# Altium integrated library Actel ProASIC3.IntLib: 427 symbols (part 3 of 68)
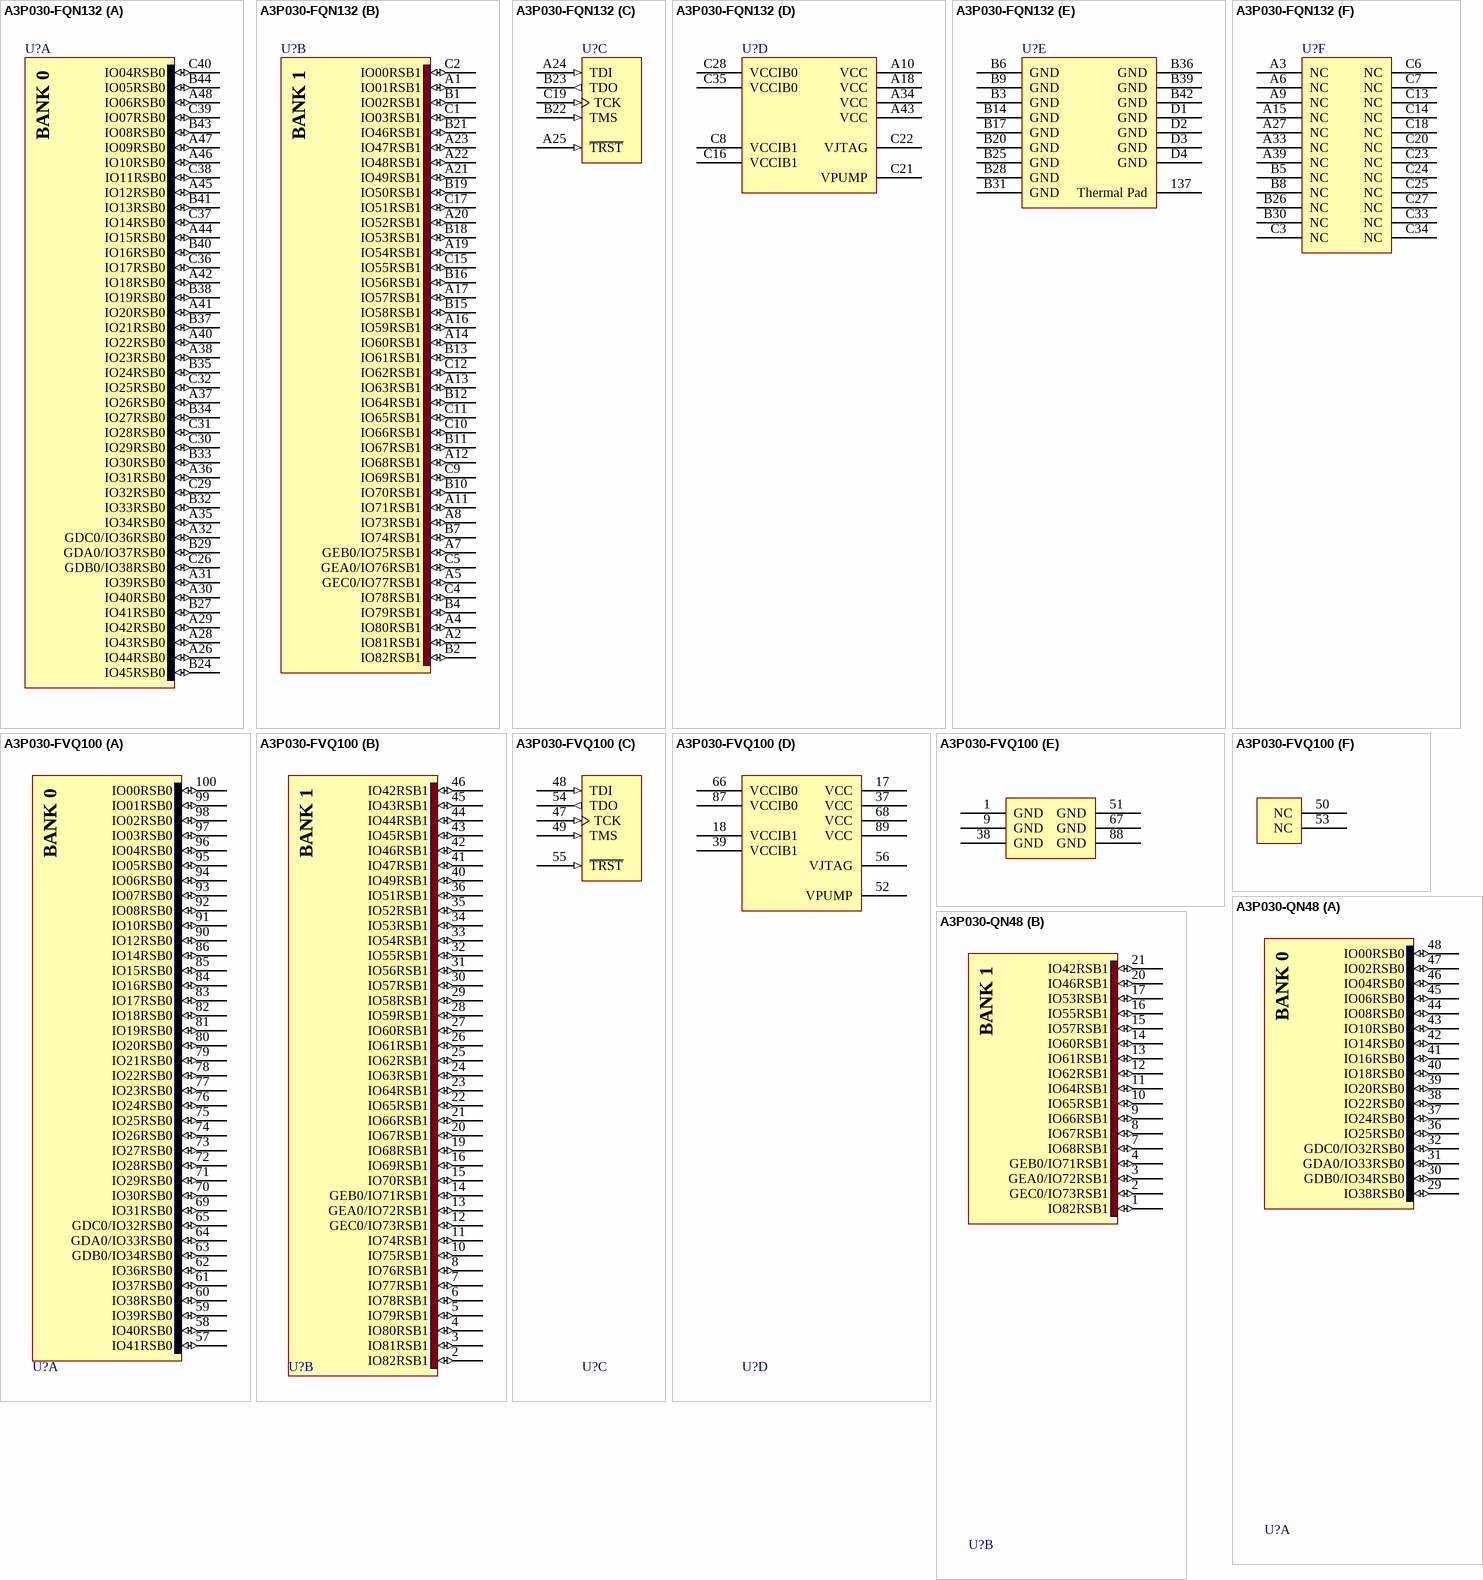
[diagram p302: symbols A3P030-FQN132 to A3P030-QN48]

## A3P030-FQN132
designator U?
ProASIC3 Flash Family FPGA, 81 User IOs, 30K System Gates, 1 Kbit ProASIC3 Flash ROM, 132-Pin QFN, Commercial Grade; Published: 30-Mar-2007; DatasheetVersion: v1.1, Feb-2009; PackageVersion: v11.0, Feb-2009; PackageReference: QN132; Publisher: Altium Limited; PackageDescription: 132-Pin Quad Flat Pack No-Leads (QN132); ComponentLink1Description: Manufacturer Link; ComponentLink1URL: http://www.actel.com/products/pa3/; ComponentLink2Description: Datasheet; ComponentLink2URL: http://www.actel.com/documents/PA3_DS.pdf; ComponentLink3Description: Packaging Specification; ComponentLink3URL: http://www.actel.com/documents/PckgMechDrwngs.pdf
footprint QN132 (QFN, 132-Leads, Body 8x8mm, Pitch 0.5mm)
3D model A3P030-QN132 (132-Pin Quad Flat Pack No-Leads (QN132))
signal-integrity model A3P030_QN132 (ProASIC3)
part A pins: A26 IO44RSB0 (io), A28 IO43RSB0 (io), A29 IO42RSB0 (io), A30 IO40RSB0 (io), A31 IO39RSB0 (io), A32 GDC0/IO36RSB0 (io), A35 IO34RSB0 (io), A36 IO31RSB0 (io), A37 IO26RSB0 (io), A38 IO23RSB0 (io), A40 IO22RSB0 (io), A41 IO20RSB0 (io), A42 IO18RSB0 (io), A44 IO15RSB0 (io), A45 IO12RSB0 (io), A46 IO10RSB0 (io), A47 IO09RSB0 (io), A48 IO06RSB0 (io), B24 IO45RSB0 (io), B27 IO41RSB0 (io), B29 GDA0/IO37RSB0 (io), B32 IO33RSB0 (io), B33 IO30RSB0 (io), B34 IO27RSB0 (io), B35 IO24RSB0 (io), B37 IO21RSB0 (io), B38 IO19RSB0 (io), B40 IO16RSB0 (io), B41 IO13RSB0 (io), B43 IO08RSB0 (io), B44 IO05RSB0 (io), C26 GDB0/IO38RSB0 (io), C29 IO32RSB0 (io), C30 IO29RSB0 (io), C31 IO28RSB0 (io), C32 IO25RSB0 (io), C36 IO17RSB0 (io), C37 IO14RSB0 (io), C38 IO11RSB0 (io), C39 IO07RSB0 (io), C40 IO04RSB0 (io)
part B pins: A1 IO01RSB1 (io), A2 IO81RSB1 (io), A4 IO80RSB1 (io), A5 GEC0/IO77RSB1 (io), A7 GEB0/IO75RSB1 (io), A8 IO73RSB1 (io), A11 IO71RSB1 (io), A12 IO68RSB1 (io), A13 IO63RSB1 (io), A14 IO60RSB1 (io), A16 IO59RSB1 (io), A17 IO57RSB1 (io), A19 IO54RSB1 (io), A20 IO52RSB1 (io), A21 IO49RSB1 (io), A22 IO48RSB1 (io), A23 IO47RSB1 (io), B1 IO02RSB1 (io), B2 IO82RSB1 (io), B4 IO79RSB1 (io), B7 IO74RSB1 (io), B10 IO70RSB1 (io), B11 IO67RSB1 (io), B12 IO64RSB1 (io), B13 IO61RSB1 (io), B15 IO58RSB1 (io), B16 IO56RSB1 (io), B18 IO53RSB1 (io), B19 IO50RSB1 (io), B21 IO46RSB1 (io), C1 IO03RSB1 (io), C2 IO00RSB1 (io), C4 IO78RSB1 (io), C5 GEA0/IO76RSB1 (io), C9 IO69RSB1 (io), C10 IO66RSB1 (io), C11 IO65RSB1 (io), C12 IO62RSB1 (io), C15 IO55RSB1 (io), C17 IO51RSB1 (io)
part C pins: A24 TDI (in), A25 ~{TRST} (in), B22 TMS (in), B23 TDO (out), C19 TCK (in)
part D pins: A10 VCC (power), A18 VCC (power), A34 VCC (power), A43 VCC (power), C8 VCCIB1 (power), C16 VCCIB1 (power), C21 VPUMP (power), C22 VJTAG (power), C28 VCCIB0 (power), C35 VCCIB0 (power)
part E pins: 137 Thermal Pad (power), B3 GND (power), B6 GND (power), B9 GND (power), B14 GND (power), B17 GND (power), B20 GND (power), B25 GND (power), B28 GND (power), B31 GND (power), B36 GND (power), B39 GND (power), B42 GND (power), D1 GND (power), D2 GND (power), D3 GND (power), D4 GND (power)
part F pins: A3 NC, A6 NC, A9 NC, A15 NC, A27 NC, A33 NC, A39 NC, B5 NC, B8 NC, B26 NC, B30 NC, C3 NC, C6 NC, C7 NC, C13 NC, C14 NC, C18 NC, C20 NC, C23 NC, C24 NC, C25 NC, C27 NC, C33 NC, C34 NC
part A text: BANK 0
part B text: BANK 1

## A3P030-FVQ100
designator U?
ProASIC3 Flash Family FPGA, 77 User IOs, 30K System Gates, 1 Kbit Flash ROM, 100-Pin VQFP, Commercial Grade; Published: 14-May-2005; LatestRevisionDate: 30-Apr-2009; LatestRevisionNote: Pinout changed to match DS ver 1.4.; DatasheetVersion: v1.1, Feb-2009; PackageVersion: v11.0, Feb-2009; PackageReference: VQ100; Publisher: Altium Limited; PackageDescription: 100-Pin Plastic Quad Flat Pack (VQ100); Code_JEDEC: MS-026-AED; ComponentLink1Description: Manufacturer Link; ComponentLink1URL: http://www.actel.com/products/pa3/; ComponentLink2Description: Datasheet; ComponentLink2URL: http://www.actel.com/documents/PA3_DS.pdf; ComponentLink3Description: Packaging Specification; ComponentLink3URL: http://www.actel.com/documents/PckgMechDrwngs.pdf
footprint VQ100_N (Thin QFP, 100-Leads, Body 14x14mm, Pitch 0.5mm, IPC Medium Density)
footprint VQ100_L (Thin QFP, 100-Leads, Body 14x14mm, Pitch 0.5mm, IPC High Density)
footprint VQ100_M (Thin QFP, 100-Leads, Body 14x14mm, Pitch 0.5mm, IPC Low Density)
3D model A3P030-VQ100 (100-Pin Plastic Quad Flat Pack (VQ100))
signal-integrity model A3P030_VQ100 (ProASIC3)
part A pins: 57 IO41RSB0 (io), 58 IO40RSB0 (io), 59 IO39RSB0 (io), 60 IO38RSB0 (io), 61 IO37RSB0 (io), 62 IO36RSB0 (io), 63 GDB0/IO34RSB0 (io), 64 GDA0/IO33RSB0 (io), 65 GDC0/IO32RSB0 (io), 69 IO31RSB0 (io), 70 IO30RSB0 (io), 71 IO29RSB0 (io), 72 IO28RSB0 (io), 73 IO27RSB0 (io), 74 IO26RSB0 (io), 75 IO25RSB0 (io), 76 IO24RSB0 (io), 77 IO23RSB0 (io), 78 IO22RSB0 (io), 79 IO21RSB0 (io), 80 IO20RSB0 (io), 81 IO19RSB0 (io), 82 IO18RSB0 (io), 83 IO17RSB0 (io), 84 IO16RSB0 (io), 85 IO15RSB0 (io), 86 IO14RSB0 (io), 90 IO12RSB0 (io), 91 IO10RSB0 (io), 92 IO08RSB0 (io), 93 IO07RSB0 (io), 94 IO06RSB0 (io), 95 IO05RSB0 (io), 96 IO04RSB0 (io), 97 IO03RSB0 (io), 98 IO02RSB0 (io), 99 IO01RSB0 (io), 100 IO00RSB0 (io)
part B pins: 2 IO82RSB1 (io), 3 IO81RSB1 (io), 4 IO80RSB1 (io), 5 IO79RSB1 (io), 6 IO78RSB1 (io), 7 IO77RSB1 (io), 8 IO76RSB1 (io), 10 IO75RSB1 (io), 11 IO74RSB1 (io), 12 GEC0/IO73RSB1 (io), 13 GEA0/IO72RSB1 (io), 14 GEB0/IO71RSB1 (io), 15 IO70RSB1 (io), 16 IO69RSB1 (io), 19 IO68RSB1 (io), 20 IO67RSB1 (io), 21 IO66RSB1 (io), 22 IO65RSB1 (io), 23 IO64RSB1 (io), 24 IO63RSB1 (io), 25 IO62RSB1 (io), 26 IO61RSB1 (io), 27 IO60RSB1 (io), 28 IO59RSB1 (io), 29 IO58RSB1 (io), 30 IO57RSB1 (io), 31 IO56RSB1 (io), 32 IO55RSB1 (io), 33 IO54RSB1 (io), 34 IO53RSB1 (io), 35 IO52RSB1 (io), 36 IO51RSB1 (io), 40 IO49RSB1 (io), 41 IO47RSB1 (io), 42 IO46RSB1 (io), 43 IO45RSB1 (io), 44 IO44RSB1 (io), 45 IO43RSB1 (io), 46 IO42RSB1 (io)
part C pins: 47 TCK (in), 48 TDI (in), 49 TMS (in), 54 TDO (out), 55 ~{TRST} (in)
part D pins: 17 VCC (power), 18 VCCIB1 (power), 37 VCC (power), 39 VCCIB1 (power), 52 VPUMP (power), 56 VJTAG (power), 66 VCCIB0 (power), 68 VCC (power), 87 VCCIB0 (power), 89 VCC (power)
part E pins: 1 GND (power), 9 GND (power), 38 GND (power), 51 GND (power), 67 GND (power), 88 GND (power)
part F pins: 50 NC, 53 NC
part A text: BANK 0
part B text: BANK 1

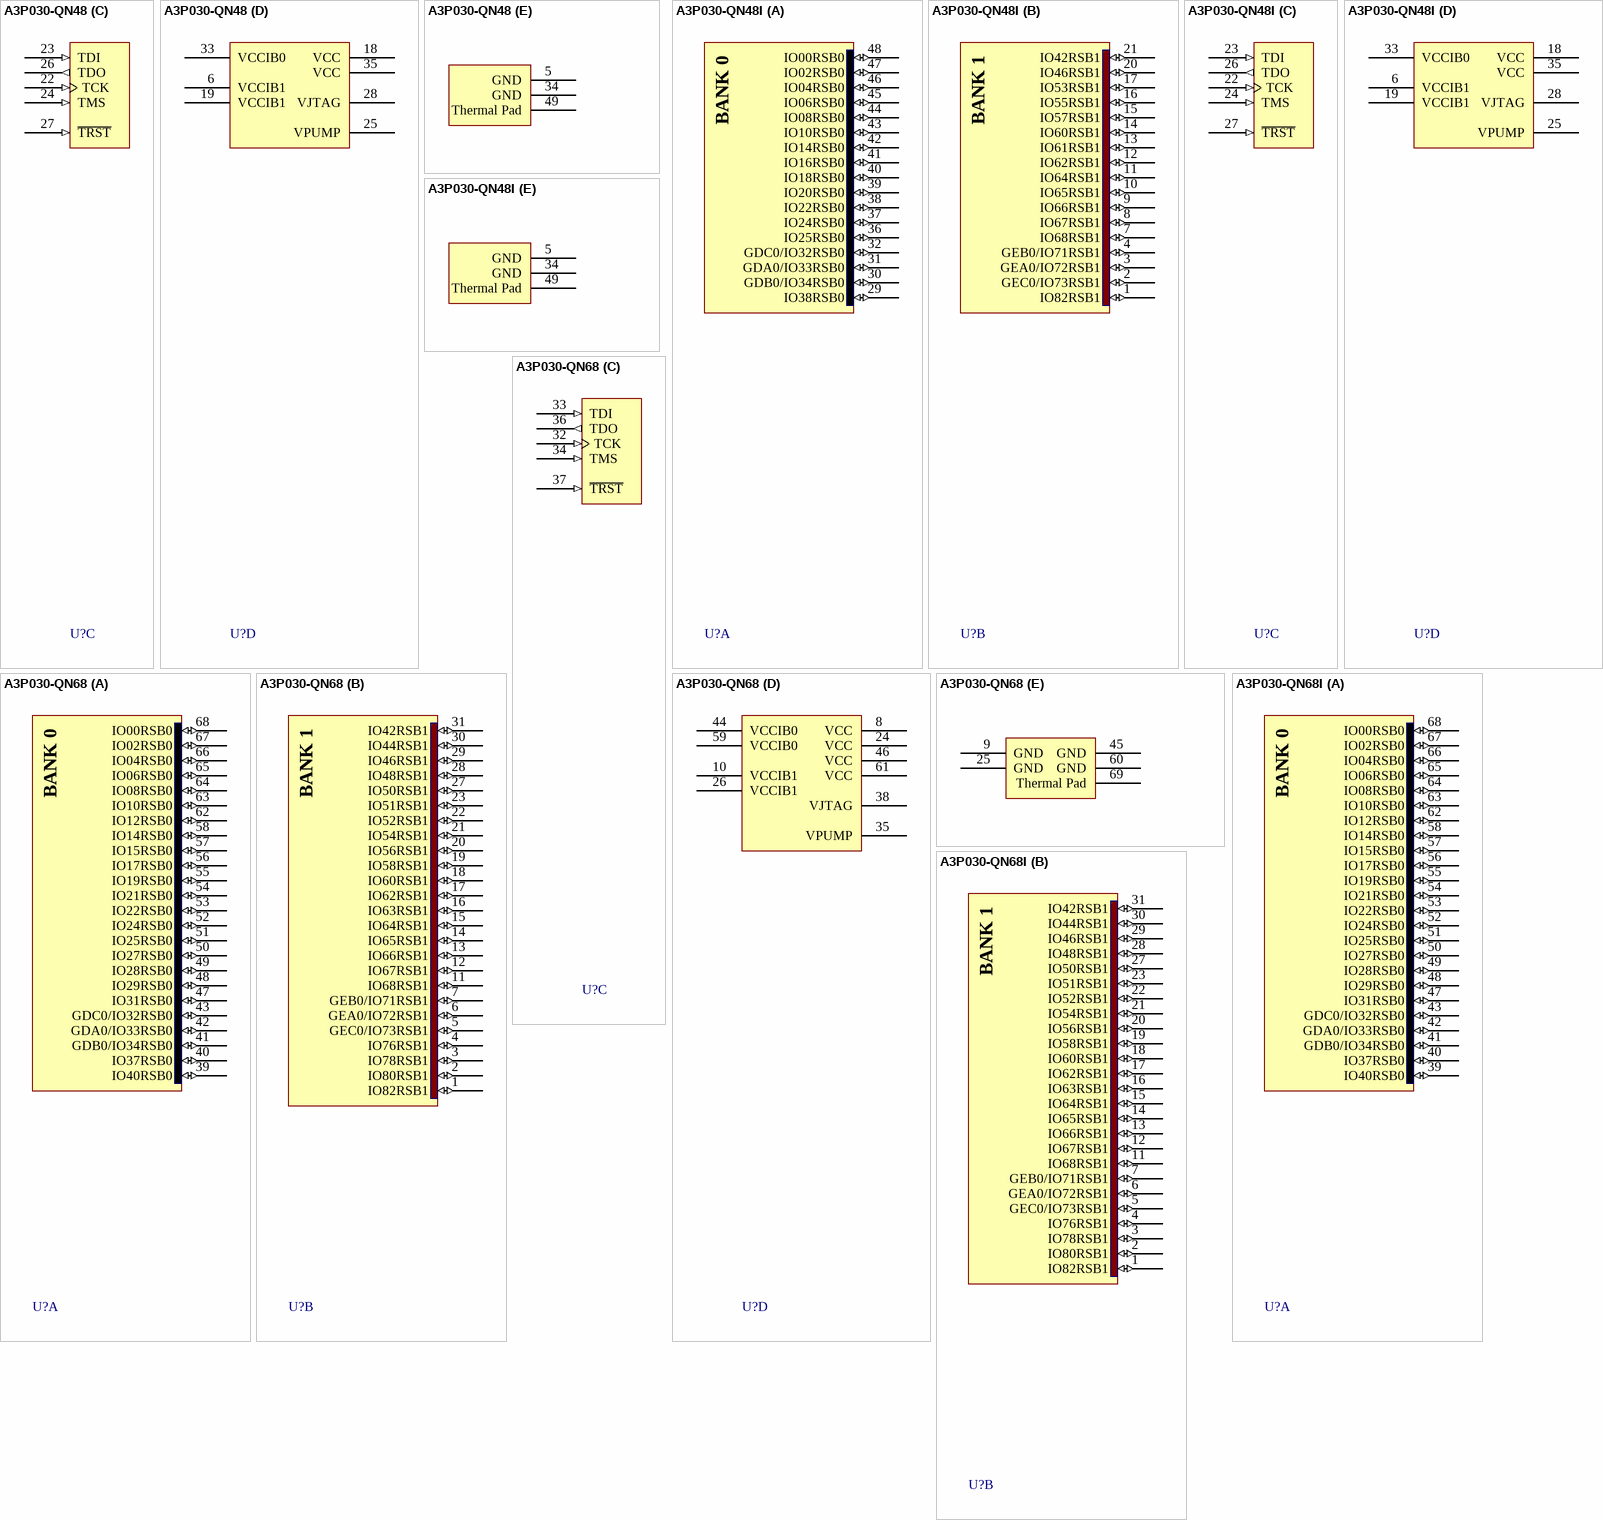
[diagram p10: symbols A3P030-QN48 to A3P030-QN68I]

## A3P030-QN48
designator U?
ProASIC3 Flash Family FPGA, 34 User IOs, 30K System Gates, 1 Kbit ProASIC3 Flash ROM, 48-Pin QFN, Commercial Grade; Published: 30-Apr-2009; DatasheetVersion: v1.1, Feb-2009; PackageVersion: v11.0, Feb-2009; PackageReference: QN48; Publisher: Altium Limited; PackageDescription: 48-Pin Quad Flat No-Lead 0.4 mm Pitch (QN48); Code_JEDEC: MO-220-VLLE-1; ComponentLink1Description: Manufacturer Link; ComponentLink1URL: http://www.actel.com/products/pa3/; ComponentLink2Description: Datasheet; ComponentLink2URL: http://www.actel.com/documents/PA3_DS.pdf; ComponentLink3Description: Packaging Specification; ComponentLink3URL: http://www.actel.com/documents/PckgMechDrwngs.pdf
footprint QN48_N (QFN, 48-Leads, Body 6x6 mm, Pitch 0.4mm, IPC Medium Density)
footprint QN48_L (QFN, 48-Leads, Body 6x6 mm, Pitch 0.4mm, IPC High Density)
footprint QN48_M (QFN, 48-Leads, Body 6x6 mm, Pitch 0.4mm, IPC Low Density)
3D model A3P030-QN48 (48-Pin Quad Flat No-Lead 0.4 mm Pitch (QN48))
signal-integrity model A3P030_QN48 (ProASIC3)
part A pins: 29 IO38RSB0 (io), 30 GDB0/IO34RSB0 (io), 31 GDA0/IO33RSB0 (io), 32 GDC0/IO32RSB0 (io), 36 IO25RSB0 (io), 37 IO24RSB0 (io), 38 IO22RSB0 (io), 39 IO20RSB0 (io), 40 IO18RSB0 (io), 41 IO16RSB0 (io), 42 IO14RSB0 (io), 43 IO10RSB0 (io), 44 IO08RSB0 (io), 45 IO06RSB0 (io), 46 IO04RSB0 (io), 47 IO02RSB0 (io), 48 IO00RSB0 (io)
part B pins: 1 IO82RSB1 (io), 2 GEC0/IO73RSB1 (io), 3 GEA0/IO72RSB1 (io), 4 GEB0/IO71RSB1 (io), 7 IO68RSB1 (io), 8 IO67RSB1 (io), 9 IO66RSB1 (io), 10 IO65RSB1 (io), 11 IO64RSB1 (io), 12 IO62RSB1 (io), 13 IO61RSB1 (io), 14 IO60RSB1 (io), 15 IO57RSB1 (io), 16 IO55RSB1 (io), 17 IO53RSB1 (io), 20 IO46RSB1 (io), 21 IO42RSB1 (io)
part C pins: 22 TCK (in), 23 TDI (in), 24 TMS (in), 26 TDO (out), 27 ~{TRST} (in)
part D pins: 6 VCCIB1 (power), 18 VCC (power), 19 VCCIB1 (power), 25 VPUMP (power), 28 VJTAG (power), 33 VCCIB0 (power), 35 VCC (power)
part E pins: 5 GND (power), 34 GND (power), 49 Thermal Pad (power)
part A text: BANK 0
part B text: BANK 1

## A3P030-QN48I
designator U?
ProASIC3 Flash Family FPGA, 34 User IOs, 30K System Gates, 1 Kbit ProASIC3 Flash ROM, 48-Pin QFN, Industrial Grade; Published: 30-Apr-2009; DatasheetVersion: v1.1, Feb-2009; PackageVersion: v11.0, Feb-2009; PackageReference: QN48; Publisher: Altium Limited; PackageDescription: 48-Pin Quad Flat No-Lead 0.4 mm Pitch (QN48); Code_JEDEC: MO-220-VLLE-1; ComponentLink1Description: Manufacturer Link; ComponentLink1URL: http://www.actel.com/products/pa3/; ComponentLink2Description: Datasheet; ComponentLink2URL: http://www.actel.com/documents/PA3_DS.pdf; ComponentLink3Description: Packaging Specification; ComponentLink3URL: http://www.actel.com/documents/PckgMechDrwngs.pdf
footprint QN48_N (QFN, 48-Leads, Body 6x6 mm, Pitch 0.4mm, IPC Medium Density)
footprint QN48_L (QFN, 48-Leads, Body 6x6 mm, Pitch 0.4mm, IPC High Density)
footprint QN48_M (QFN, 48-Leads, Body 6x6 mm, Pitch 0.4mm, IPC Low Density)
3D model A3P030-QN48 (48-Pin Quad Flat No-Lead 0.4 mm Pitch (QN48))
signal-integrity model A3P030_QN48 (ProASIC3)
part A pins: 29 IO38RSB0 (io), 30 GDB0/IO34RSB0 (io), 31 GDA0/IO33RSB0 (io), 32 GDC0/IO32RSB0 (io), 36 IO25RSB0 (io), 37 IO24RSB0 (io), 38 IO22RSB0 (io), 39 IO20RSB0 (io), 40 IO18RSB0 (io), 41 IO16RSB0 (io), 42 IO14RSB0 (io), 43 IO10RSB0 (io), 44 IO08RSB0 (io), 45 IO06RSB0 (io), 46 IO04RSB0 (io), 47 IO02RSB0 (io), 48 IO00RSB0 (io)
part B pins: 1 IO82RSB1 (io), 2 GEC0/IO73RSB1 (io), 3 GEA0/IO72RSB1 (io), 4 GEB0/IO71RSB1 (io), 7 IO68RSB1 (io), 8 IO67RSB1 (io), 9 IO66RSB1 (io), 10 IO65RSB1 (io), 11 IO64RSB1 (io), 12 IO62RSB1 (io), 13 IO61RSB1 (io), 14 IO60RSB1 (io), 15 IO57RSB1 (io), 16 IO55RSB1 (io), 17 IO53RSB1 (io), 20 IO46RSB1 (io), 21 IO42RSB1 (io)
part C pins: 22 TCK (in), 23 TDI (in), 24 TMS (in), 26 TDO (out), 27 ~{TRST} (in)
part D pins: 6 VCCIB1 (power), 18 VCC (power), 19 VCCIB1 (power), 25 VPUMP (power), 28 VJTAG (power), 33 VCCIB0 (power), 35 VCC (power)
part E pins: 5 GND (power), 34 GND (power), 49 Thermal Pad (power)
part A text: BANK 0
part B text: BANK 1

## A3P030-QN68
designator U?
ProASIC3 Flash Family FPGA, 49 User IOs, 30K System Gates, 1 Kbit ProASIC3 Flash ROM, 68-Pin QFN, Commercial Grade; Published: 30-Apr-2009; DatasheetVersion: v1.1, Feb-2009; PackageVersion: v11.0, Feb-2009; PackageReference: QN68; Publisher: Altium Limited; PackageDescription: 68-Pin Quad Flat No-Lead 0.4 mm Pitch (QN68); Code_JEDEC: MO-220-VLLE-1; ComponentLink1Description: Manufacturer Link; ComponentLink1URL: http://www.actel.com/products/pa3/; ComponentLink2Description: Datasheet; ComponentLink2URL: http://www.actel.com/documents/PA3_DS.pdf; ComponentLink3Description: Packaging Specification; ComponentLink3URL: http://www.actel.com/documents/PckgMechDrwngs.pdf
footprint QN68_N (QFN, 68-Leads, Body 8x8 mm, Pitch 0.4mm, IPC Medium Density)
footprint QN68_L (QFN, 68-Leads, Body 8x8 mm, Pitch 0.4mm, IPC High Density)
footprint QN68_M (QFN, 68-Leads, Body 8x8 mm, Pitch 0.4mm, IPC Low Density)
3D model A3P030-QN68 (68-Pin Quad Flat No-Lead 0.4 mm Pitch (QN68))
signal-integrity model A3P030_QN68 (ProASIC3)
part A pins: 39 IO40RSB0 (io), 40 IO37RSB0 (io), 41 GDB0/IO34RSB0 (io), 42 GDA0/IO33RSB0 (io), 43 GDC0/IO32RSB0 (io), 47 IO31RSB0 (io), 48 IO29RSB0 (io), 49 IO28RSB0 (io), 50 IO27RSB0 (io), 51 IO25RSB0 (io), 52 IO24RSB0 (io), 53 IO22RSB0 (io), 54 IO21RSB0 (io), 55 IO19RSB0 (io), 56 IO17RSB0 (io), 57 IO15RSB0 (io), 58 IO14RSB0 (io), 62 IO12RSB0 (io), 63 IO10RSB0 (io), 64 IO08RSB0 (io), 65 IO06RSB0 (io), 66 IO04RSB0 (io), 67 IO02RSB0 (io), 68 IO00RSB0 (io)
part B pins: 1 IO82RSB1 (io), 2 IO80RSB1 (io), 3 IO78RSB1 (io), 4 IO76RSB1 (io), 5 GEC0/IO73RSB1 (io), 6 GEA0/IO72RSB1 (io), 7 GEB0/IO71RSB1 (io), 11 IO68RSB1 (io), 12 IO67RSB1 (io), 13 IO66RSB1 (io), 14 IO65RSB1 (io), 15 IO64RSB1 (io), 16 IO63RSB1 (io), 17 IO62RSB1 (io), 18 IO60RSB1 (io), 19 IO58RSB1 (io), 20 IO56RSB1 (io), 21 IO54RSB1 (io), 22 IO52RSB1 (io), 23 IO51RSB1 (io), 27 IO50RSB1 (io), 28 IO48RSB1 (io), 29 IO46RSB1 (io), 30 IO44RSB1 (io), 31 IO42RSB1 (io)
part C pins: 32 TCK (in), 33 TDI (in), 34 TMS (in), 36 TDO (out), 37 ~{TRST} (in)
part D pins: 8 VCC (power), 10 VCCIB1 (power), 24 VCC (power), 26 VCCIB1 (power), 35 VPUMP (power), 38 VJTAG (power), 44 VCCIB0 (power), 46 VCC (power), 59 VCCIB0 (power), 61 VCC (power)
part E pins: 9 GND (power), 25 GND (power), 45 GND (power), 60 GND (power), 69 Thermal Pad (power)
part A text: BANK 0
part B text: BANK 1

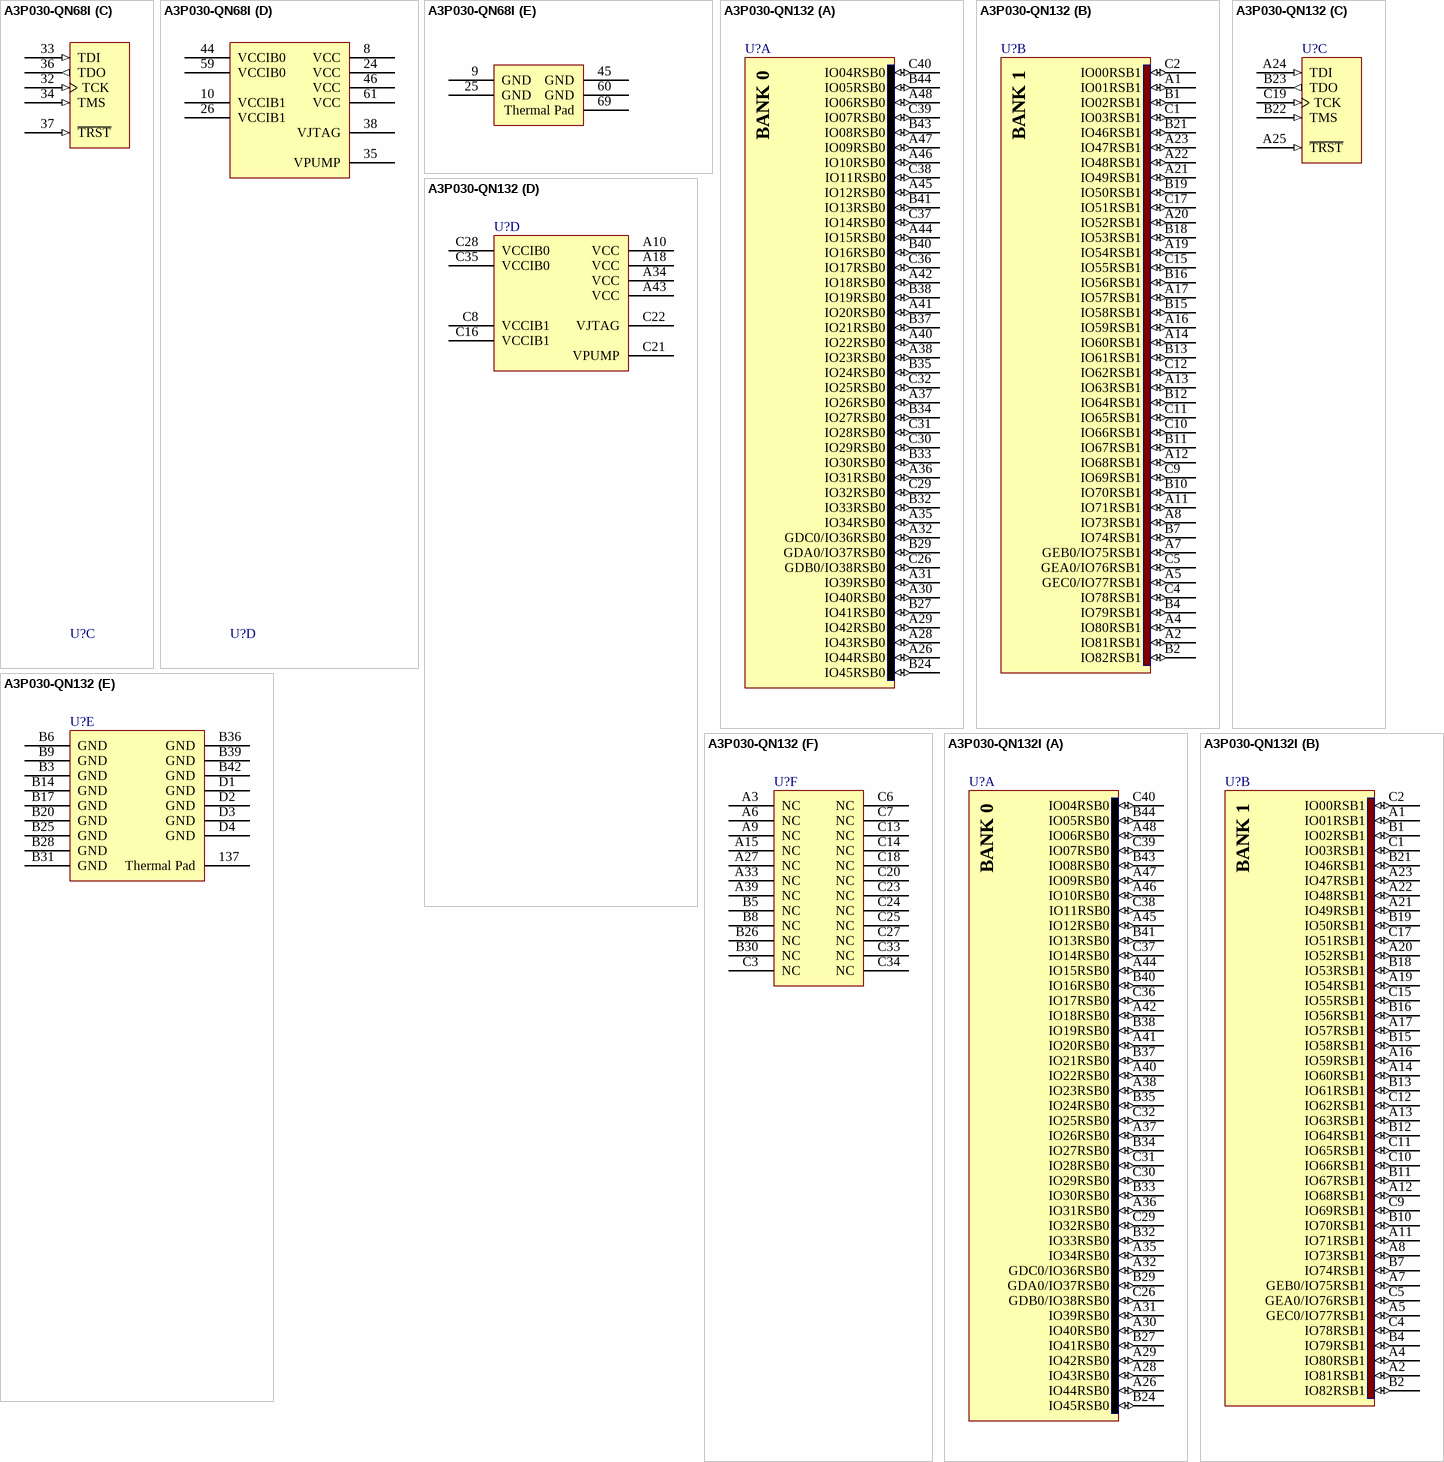
[diagram p11: symbols A3P030-QN68I to A3P030-QN132I]

## A3P030-QN68I
designator U?
ProASIC3 Flash Family FPGA, 49 User IOs, 30K System Gates, 1 Kbit ProASIC3 Flash ROM, 68-Pin QFN, Industrial Grade; Published: 30-Apr-2009; DatasheetVersion: v1.1, Feb-2009; PackageVersion: v11.0, Feb-2009; PackageReference: QN68; Publisher: Altium Limited; PackageDescription: 68-Pin Quad Flat No-Lead 0.4 mm Pitch (QN68); Code_JEDEC: MO-220-VLLE-1; ComponentLink1Description: Manufacturer Link; ComponentLink1URL: http://www.actel.com/products/pa3/; ComponentLink2Description: Datasheet; ComponentLink2URL: http://www.actel.com/documents/PA3_DS.pdf; ComponentLink3Description: Packaging Specification; ComponentLink3URL: http://www.actel.com/documents/PckgMechDrwngs.pdf
footprint QN68_N (QFN, 68-Leads, Body 8x8 mm, Pitch 0.4mm, IPC Medium Density)
footprint QN68_L (QFN, 68-Leads, Body 8x8 mm, Pitch 0.4mm, IPC High Density)
footprint QN68_M (QFN, 68-Leads, Body 8x8 mm, Pitch 0.4mm, IPC Low Density)
3D model A3P030-QN68 (68-Pin Quad Flat No-Lead 0.4 mm Pitch (QN68))
signal-integrity model A3P030_QN68 (ProASIC3)
part A pins: 39 IO40RSB0 (io), 40 IO37RSB0 (io), 41 GDB0/IO34RSB0 (io), 42 GDA0/IO33RSB0 (io), 43 GDC0/IO32RSB0 (io), 47 IO31RSB0 (io), 48 IO29RSB0 (io), 49 IO28RSB0 (io), 50 IO27RSB0 (io), 51 IO25RSB0 (io), 52 IO24RSB0 (io), 53 IO22RSB0 (io), 54 IO21RSB0 (io), 55 IO19RSB0 (io), 56 IO17RSB0 (io), 57 IO15RSB0 (io), 58 IO14RSB0 (io), 62 IO12RSB0 (io), 63 IO10RSB0 (io), 64 IO08RSB0 (io), 65 IO06RSB0 (io), 66 IO04RSB0 (io), 67 IO02RSB0 (io), 68 IO00RSB0 (io)
part B pins: 1 IO82RSB1 (io), 2 IO80RSB1 (io), 3 IO78RSB1 (io), 4 IO76RSB1 (io), 5 GEC0/IO73RSB1 (io), 6 GEA0/IO72RSB1 (io), 7 GEB0/IO71RSB1 (io), 11 IO68RSB1 (io), 12 IO67RSB1 (io), 13 IO66RSB1 (io), 14 IO65RSB1 (io), 15 IO64RSB1 (io), 16 IO63RSB1 (io), 17 IO62RSB1 (io), 18 IO60RSB1 (io), 19 IO58RSB1 (io), 20 IO56RSB1 (io), 21 IO54RSB1 (io), 22 IO52RSB1 (io), 23 IO51RSB1 (io), 27 IO50RSB1 (io), 28 IO48RSB1 (io), 29 IO46RSB1 (io), 30 IO44RSB1 (io), 31 IO42RSB1 (io)
part C pins: 32 TCK (in), 33 TDI (in), 34 TMS (in), 36 TDO (out), 37 ~{TRST} (in)
part D pins: 8 VCC (power), 10 VCCIB1 (power), 24 VCC (power), 26 VCCIB1 (power), 35 VPUMP (power), 38 VJTAG (power), 44 VCCIB0 (power), 46 VCC (power), 59 VCCIB0 (power), 61 VCC (power)
part E pins: 9 GND (power), 25 GND (power), 45 GND (power), 60 GND (power), 69 Thermal Pad (power)
part A text: BANK 0
part B text: BANK 1

## A3P030-QN132
designator U?
ProASIC3 Flash Family FPGA, 81 User IOs, 30K System Gates, 1 Kbit ProASIC3 Flash ROM, 132-Pin QFN, Commercial Grade; Published: 30-Mar-2007; DatasheetVersion: v1.1, Feb-2009; PackageVersion: v11.0, Feb-2009; PackageReference: QN132; Publisher: Altium Limited; PackageDescription: 132-Pin Quad Flat Pack No-Leads (QN132); ComponentLink1Description: Manufacturer Link; ComponentLink1URL: http://www.actel.com/products/pa3/; ComponentLink2Description: Datasheet; ComponentLink2URL: http://www.actel.com/documents/PA3_DS.pdf; ComponentLink3Description: Packaging Specification; ComponentLink3URL: http://www.actel.com/documents/PckgMechDrwngs.pdf
footprint QN132 (QFN, 132-Leads, Body 8x8mm, Pitch 0.5mm)
3D model A3P030-QN132 (132-Pin Quad Flat Pack No-Leads (QN132))
signal-integrity model A3P030_QN132 (ProASIC3)
part A pins: A26 IO44RSB0 (io), A28 IO43RSB0 (io), A29 IO42RSB0 (io), A30 IO40RSB0 (io), A31 IO39RSB0 (io), A32 GDC0/IO36RSB0 (io), A35 IO34RSB0 (io), A36 IO31RSB0 (io), A37 IO26RSB0 (io), A38 IO23RSB0 (io), A40 IO22RSB0 (io), A41 IO20RSB0 (io), A42 IO18RSB0 (io), A44 IO15RSB0 (io), A45 IO12RSB0 (io), A46 IO10RSB0 (io), A47 IO09RSB0 (io), A48 IO06RSB0 (io), B24 IO45RSB0 (io), B27 IO41RSB0 (io), B29 GDA0/IO37RSB0 (io), B32 IO33RSB0 (io), B33 IO30RSB0 (io), B34 IO27RSB0 (io), B35 IO24RSB0 (io), B37 IO21RSB0 (io), B38 IO19RSB0 (io), B40 IO16RSB0 (io), B41 IO13RSB0 (io), B43 IO08RSB0 (io), B44 IO05RSB0 (io), C26 GDB0/IO38RSB0 (io), C29 IO32RSB0 (io), C30 IO29RSB0 (io), C31 IO28RSB0 (io), C32 IO25RSB0 (io), C36 IO17RSB0 (io), C37 IO14RSB0 (io), C38 IO11RSB0 (io), C39 IO07RSB0 (io), C40 IO04RSB0 (io)
part B pins: A1 IO01RSB1 (io), A2 IO81RSB1 (io), A4 IO80RSB1 (io), A5 GEC0/IO77RSB1 (io), A7 GEB0/IO75RSB1 (io), A8 IO73RSB1 (io), A11 IO71RSB1 (io), A12 IO68RSB1 (io), A13 IO63RSB1 (io), A14 IO60RSB1 (io), A16 IO59RSB1 (io), A17 IO57RSB1 (io), A19 IO54RSB1 (io), A20 IO52RSB1 (io), A21 IO49RSB1 (io), A22 IO48RSB1 (io), A23 IO47RSB1 (io), B1 IO02RSB1 (io), B2 IO82RSB1 (io), B4 IO79RSB1 (io), B7 IO74RSB1 (io), B10 IO70RSB1 (io), B11 IO67RSB1 (io), B12 IO64RSB1 (io), B13 IO61RSB1 (io), B15 IO58RSB1 (io), B16 IO56RSB1 (io), B18 IO53RSB1 (io), B19 IO50RSB1 (io), B21 IO46RSB1 (io), C1 IO03RSB1 (io), C2 IO00RSB1 (io), C4 IO78RSB1 (io), C5 GEA0/IO76RSB1 (io), C9 IO69RSB1 (io), C10 IO66RSB1 (io), C11 IO65RSB1 (io), C12 IO62RSB1 (io), C15 IO55RSB1 (io), C17 IO51RSB1 (io)
part C pins: A24 TDI (in), A25 ~{TRST} (in), B22 TMS (in), B23 TDO (out), C19 TCK (in)
part D pins: A10 VCC (power), A18 VCC (power), A34 VCC (power), A43 VCC (power), C8 VCCIB1 (power), C16 VCCIB1 (power), C21 VPUMP (power), C22 VJTAG (power), C28 VCCIB0 (power), C35 VCCIB0 (power)
part E pins: 137 Thermal Pad (power), B3 GND (power), B6 GND (power), B9 GND (power), B14 GND (power), B17 GND (power), B20 GND (power), B25 GND (power), B28 GND (power), B31 GND (power), B36 GND (power), B39 GND (power), B42 GND (power), D1 GND (power), D2 GND (power), D3 GND (power), D4 GND (power)
part F pins: A3 NC, A6 NC, A9 NC, A15 NC, A27 NC, A33 NC, A39 NC, B5 NC, B8 NC, B26 NC, B30 NC, C3 NC, C6 NC, C7 NC, C13 NC, C14 NC, C18 NC, C20 NC, C23 NC, C24 NC, C25 NC, C27 NC, C33 NC, C34 NC
part A text: BANK 0
part B text: BANK 1

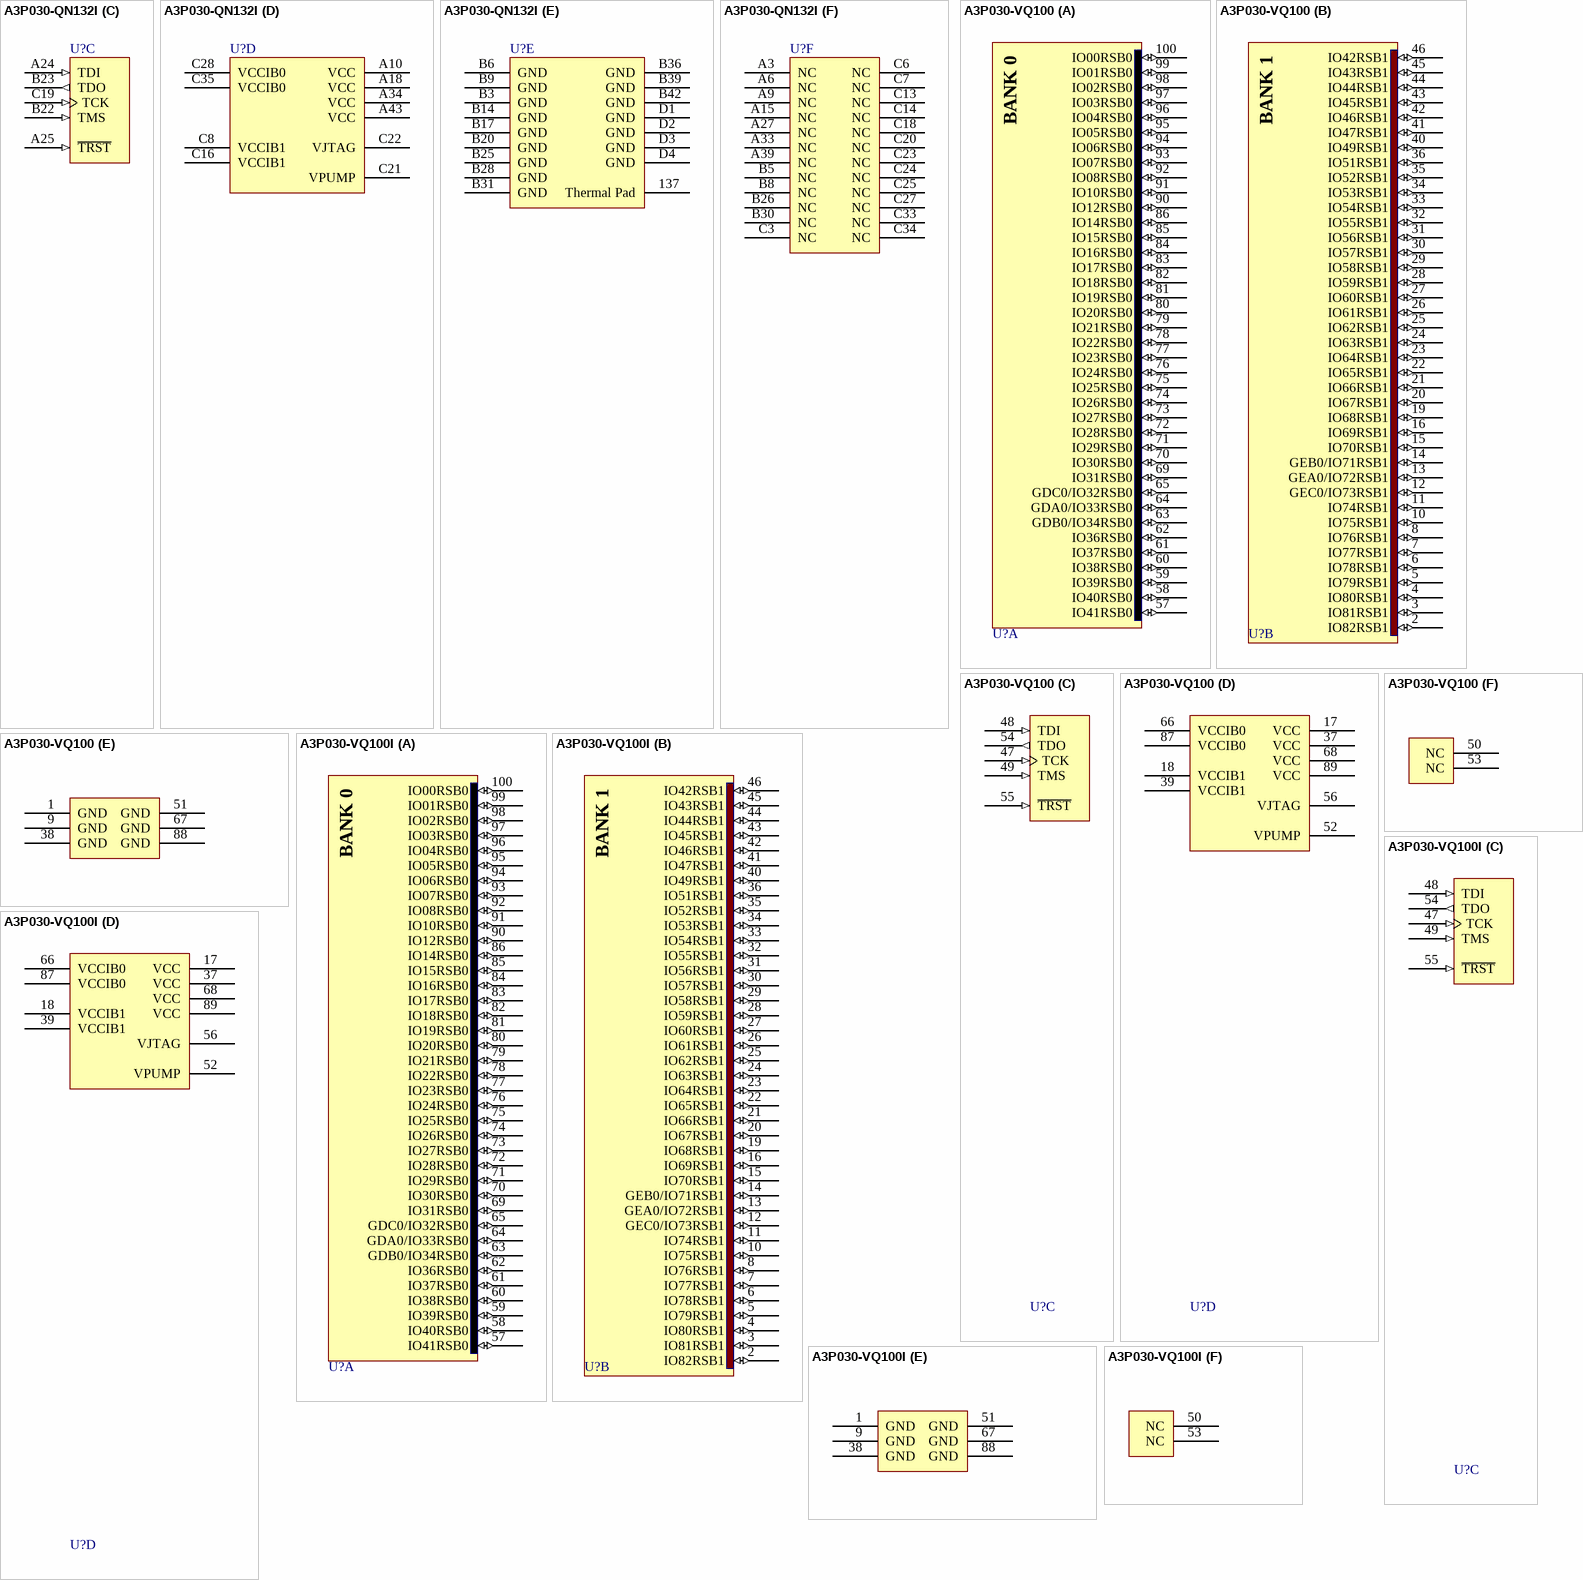
[diagram p12: symbols A3P030-QN132I to A3P030-VQ100I]

## A3P030-QN132I
designator U?
ProASIC3 Flash Family FPGA, 81 User IOs, 30K System Gates, 1 Kbit ProASIC3 Flash ROM, 132-Pin QFN, Industrial Grade; Published: 30-Mar-2007; DatasheetVersion: v1.1, Feb-2009; PackageVersion: v11.0, Feb-2009; PackageReference: QN132; Publisher: Altium Limited; PackageDescription: 132-Pin Quad Flat Pack No-Leads (QN132); ComponentLink1Description: Manufacturer Link; ComponentLink1URL: http://www.actel.com/products/pa3/; ComponentLink2Description: Datasheet; ComponentLink2URL: http://www.actel.com/documents/PA3_DS.pdf; ComponentLink3Description: Packaging Specification; ComponentLink3URL: http://www.actel.com/documents/PckgMechDrwngs.pdf
footprint QN132 (QFN, 132-Leads, Body 8x8mm, Pitch 0.5mm)
3D model A3P030-QN132 (132-Pin Quad Flat Pack No-Leads (QN132))
signal-integrity model A3P030_QN132 (ProASIC3)
part A pins: A26 IO44RSB0 (io), A28 IO43RSB0 (io), A29 IO42RSB0 (io), A30 IO40RSB0 (io), A31 IO39RSB0 (io), A32 GDC0/IO36RSB0 (io), A35 IO34RSB0 (io), A36 IO31RSB0 (io), A37 IO26RSB0 (io), A38 IO23RSB0 (io), A40 IO22RSB0 (io), A41 IO20RSB0 (io), A42 IO18RSB0 (io), A44 IO15RSB0 (io), A45 IO12RSB0 (io), A46 IO10RSB0 (io), A47 IO09RSB0 (io), A48 IO06RSB0 (io), B24 IO45RSB0 (io), B27 IO41RSB0 (io), B29 GDA0/IO37RSB0 (io), B32 IO33RSB0 (io), B33 IO30RSB0 (io), B34 IO27RSB0 (io), B35 IO24RSB0 (io), B37 IO21RSB0 (io), B38 IO19RSB0 (io), B40 IO16RSB0 (io), B41 IO13RSB0 (io), B43 IO08RSB0 (io), B44 IO05RSB0 (io), C26 GDB0/IO38RSB0 (io), C29 IO32RSB0 (io), C30 IO29RSB0 (io), C31 IO28RSB0 (io), C32 IO25RSB0 (io), C36 IO17RSB0 (io), C37 IO14RSB0 (io), C38 IO11RSB0 (io), C39 IO07RSB0 (io), C40 IO04RSB0 (io)
part B pins: A1 IO01RSB1 (io), A2 IO81RSB1 (io), A4 IO80RSB1 (io), A5 GEC0/IO77RSB1 (io), A7 GEB0/IO75RSB1 (io), A8 IO73RSB1 (io), A11 IO71RSB1 (io), A12 IO68RSB1 (io), A13 IO63RSB1 (io), A14 IO60RSB1 (io), A16 IO59RSB1 (io), A17 IO57RSB1 (io), A19 IO54RSB1 (io), A20 IO52RSB1 (io), A21 IO49RSB1 (io), A22 IO48RSB1 (io), A23 IO47RSB1 (io), B1 IO02RSB1 (io), B2 IO82RSB1 (io), B4 IO79RSB1 (io), B7 IO74RSB1 (io), B10 IO70RSB1 (io), B11 IO67RSB1 (io), B12 IO64RSB1 (io), B13 IO61RSB1 (io), B15 IO58RSB1 (io), B16 IO56RSB1 (io), B18 IO53RSB1 (io), B19 IO50RSB1 (io), B21 IO46RSB1 (io), C1 IO03RSB1 (io), C2 IO00RSB1 (io), C4 IO78RSB1 (io), C5 GEA0/IO76RSB1 (io), C9 IO69RSB1 (io), C10 IO66RSB1 (io), C11 IO65RSB1 (io), C12 IO62RSB1 (io), C15 IO55RSB1 (io), C17 IO51RSB1 (io)
part C pins: A24 TDI (in), A25 ~{TRST} (in), B22 TMS (in), B23 TDO (out), C19 TCK (in)
part D pins: A10 VCC (power), A18 VCC (power), A34 VCC (power), A43 VCC (power), C8 VCCIB1 (power), C16 VCCIB1 (power), C21 VPUMP (power), C22 VJTAG (power), C28 VCCIB0 (power), C35 VCCIB0 (power)
part E pins: 137 Thermal Pad (power), B3 GND (power), B6 GND (power), B9 GND (power), B14 GND (power), B17 GND (power), B20 GND (power), B25 GND (power), B28 GND (power), B31 GND (power), B36 GND (power), B39 GND (power), B42 GND (power), D1 GND (power), D2 GND (power), D3 GND (power), D4 GND (power)
part F pins: A3 NC, A6 NC, A9 NC, A15 NC, A27 NC, A33 NC, A39 NC, B5 NC, B8 NC, B26 NC, B30 NC, C3 NC, C6 NC, C7 NC, C13 NC, C14 NC, C18 NC, C20 NC, C23 NC, C24 NC, C25 NC, C27 NC, C33 NC, C34 NC
part A text: BANK 0
part B text: BANK 1

## A3P030-VQ100
designator U?
ProASIC3 Flash Family FPGA, 77 User IOs, 30K System Gates, 1 Kbit Flash ROM, 100-Pin VQFP, Commercial Grade; Published: 14-May-2005; LatestRevisionDate: 30-Apr-2009; LatestRevisionNote: Pinout changed to match DS ver 1.4.; DatasheetVersion: v1.1, Feb-2009; PackageVersion: v11.0, Feb-2009; PackageReference: VQ100; Publisher: Altium Limited; PackageDescription: 100-Pin Plastic Quad Flat Pack (VQ100); Code_JEDEC: MS-026-AED; ComponentLink1Description: Manufacturer Link; ComponentLink1URL: http://www.actel.com/products/pa3/; ComponentLink2Description: Datasheet; ComponentLink2URL: http://www.actel.com/documents/PA3_DS.pdf; ComponentLink3Description: Packaging Specification; ComponentLink3URL: http://www.actel.com/documents/PckgMechDrwngs.pdf
footprint VQ100_N (Thin QFP, 100-Leads, Body 14x14mm, Pitch 0.5mm, IPC Medium Density)
footprint VQ100_L (Thin QFP, 100-Leads, Body 14x14mm, Pitch 0.5mm, IPC High Density)
footprint VQ100_M (Thin QFP, 100-Leads, Body 14x14mm, Pitch 0.5mm, IPC Low Density)
3D model A3P030-VQ100 (100-Pin Plastic Quad Flat Pack (VQ100))
signal-integrity model A3P030_VQ100 (ProASIC3)
part A pins: 57 IO41RSB0 (io), 58 IO40RSB0 (io), 59 IO39RSB0 (io), 60 IO38RSB0 (io), 61 IO37RSB0 (io), 62 IO36RSB0 (io), 63 GDB0/IO34RSB0 (io), 64 GDA0/IO33RSB0 (io), 65 GDC0/IO32RSB0 (io), 69 IO31RSB0 (io), 70 IO30RSB0 (io), 71 IO29RSB0 (io), 72 IO28RSB0 (io), 73 IO27RSB0 (io), 74 IO26RSB0 (io), 75 IO25RSB0 (io), 76 IO24RSB0 (io), 77 IO23RSB0 (io), 78 IO22RSB0 (io), 79 IO21RSB0 (io), 80 IO20RSB0 (io), 81 IO19RSB0 (io), 82 IO18RSB0 (io), 83 IO17RSB0 (io), 84 IO16RSB0 (io), 85 IO15RSB0 (io), 86 IO14RSB0 (io), 90 IO12RSB0 (io), 91 IO10RSB0 (io), 92 IO08RSB0 (io), 93 IO07RSB0 (io), 94 IO06RSB0 (io), 95 IO05RSB0 (io), 96 IO04RSB0 (io), 97 IO03RSB0 (io), 98 IO02RSB0 (io), 99 IO01RSB0 (io), 100 IO00RSB0 (io)
part B pins: 2 IO82RSB1 (io), 3 IO81RSB1 (io), 4 IO80RSB1 (io), 5 IO79RSB1 (io), 6 IO78RSB1 (io), 7 IO77RSB1 (io), 8 IO76RSB1 (io), 10 IO75RSB1 (io), 11 IO74RSB1 (io), 12 GEC0/IO73RSB1 (io), 13 GEA0/IO72RSB1 (io), 14 GEB0/IO71RSB1 (io), 15 IO70RSB1 (io), 16 IO69RSB1 (io), 19 IO68RSB1 (io), 20 IO67RSB1 (io), 21 IO66RSB1 (io), 22 IO65RSB1 (io), 23 IO64RSB1 (io), 24 IO63RSB1 (io), 25 IO62RSB1 (io), 26 IO61RSB1 (io), 27 IO60RSB1 (io), 28 IO59RSB1 (io), 29 IO58RSB1 (io), 30 IO57RSB1 (io), 31 IO56RSB1 (io), 32 IO55RSB1 (io), 33 IO54RSB1 (io), 34 IO53RSB1 (io), 35 IO52RSB1 (io), 36 IO51RSB1 (io), 40 IO49RSB1 (io), 41 IO47RSB1 (io), 42 IO46RSB1 (io), 43 IO45RSB1 (io), 44 IO44RSB1 (io), 45 IO43RSB1 (io), 46 IO42RSB1 (io)
part C pins: 47 TCK (in), 48 TDI (in), 49 TMS (in), 54 TDO (out), 55 ~{TRST} (in)
part D pins: 17 VCC (power), 18 VCCIB1 (power), 37 VCC (power), 39 VCCIB1 (power), 52 VPUMP (power), 56 VJTAG (power), 66 VCCIB0 (power), 68 VCC (power), 87 VCCIB0 (power), 89 VCC (power)
part E pins: 1 GND (power), 9 GND (power), 38 GND (power), 51 GND (power), 67 GND (power), 88 GND (power)
part F pins: 50 NC, 53 NC
part A text: BANK 0
part B text: BANK 1

## A3P030-VQ100I
designator U?
ProASIC3 Flash Family FPGA, 77 User IOs, 30K System Gates, 1 Kbit Flash ROM, 100-Pin VQFP, Industrial Grade; Published: 14-May-2005; LatestRevisionDate: 30-Apr-2009; LatestRevisionNote: Pinout changed to match DS ver 1.4.; DatasheetVersion: v1.1, Feb-2009; PackageVersion: v11.0, Feb-2009; PackageReference: VQ100; Publisher: Altium Limited; PackageDescription: 100-Pin Plastic Quad Flat Pack (VQ100); Code_JEDEC: MS-026-AED; ComponentLink1Description: Manufacturer Link; ComponentLink1URL: http://www.actel.com/products/pa3/; ComponentLink2Description: Datasheet; ComponentLink2URL: http://www.actel.com/documents/PA3_DS.pdf; ComponentLink3Description: Packaging Specification; ComponentLink3URL: http://www.actel.com/documents/PckgMechDrwngs.pdf
footprint VQ100_N (Thin QFP, 100-Leads, Body 14x14mm, Pitch 0.5mm, IPC Medium Density)
footprint VQ100_L (Thin QFP, 100-Leads, Body 14x14mm, Pitch 0.5mm, IPC High Density)
footprint VQ100_M (Thin QFP, 100-Leads, Body 14x14mm, Pitch 0.5mm, IPC Low Density)
3D model A3P030-VQ100 (100-Pin Plastic Quad Flat Pack (VQ100))
signal-integrity model A3P030_VQ100 (ProASIC3)
part A pins: 57 IO41RSB0 (io), 58 IO40RSB0 (io), 59 IO39RSB0 (io), 60 IO38RSB0 (io), 61 IO37RSB0 (io), 62 IO36RSB0 (io), 63 GDB0/IO34RSB0 (io), 64 GDA0/IO33RSB0 (io), 65 GDC0/IO32RSB0 (io), 69 IO31RSB0 (io), 70 IO30RSB0 (io), 71 IO29RSB0 (io), 72 IO28RSB0 (io), 73 IO27RSB0 (io), 74 IO26RSB0 (io), 75 IO25RSB0 (io), 76 IO24RSB0 (io), 77 IO23RSB0 (io), 78 IO22RSB0 (io), 79 IO21RSB0 (io), 80 IO20RSB0 (io), 81 IO19RSB0 (io), 82 IO18RSB0 (io), 83 IO17RSB0 (io), 84 IO16RSB0 (io), 85 IO15RSB0 (io), 86 IO14RSB0 (io), 90 IO12RSB0 (io), 91 IO10RSB0 (io), 92 IO08RSB0 (io), 93 IO07RSB0 (io), 94 IO06RSB0 (io), 95 IO05RSB0 (io), 96 IO04RSB0 (io), 97 IO03RSB0 (io), 98 IO02RSB0 (io), 99 IO01RSB0 (io), 100 IO00RSB0 (io)
part B pins: 2 IO82RSB1 (io), 3 IO81RSB1 (io), 4 IO80RSB1 (io), 5 IO79RSB1 (io), 6 IO78RSB1 (io), 7 IO77RSB1 (io), 8 IO76RSB1 (io), 10 IO75RSB1 (io), 11 IO74RSB1 (io), 12 GEC0/IO73RSB1 (io), 13 GEA0/IO72RSB1 (io), 14 GEB0/IO71RSB1 (io), 15 IO70RSB1 (io), 16 IO69RSB1 (io), 19 IO68RSB1 (io), 20 IO67RSB1 (io), 21 IO66RSB1 (io), 22 IO65RSB1 (io), 23 IO64RSB1 (io), 24 IO63RSB1 (io), 25 IO62RSB1 (io), 26 IO61RSB1 (io), 27 IO60RSB1 (io), 28 IO59RSB1 (io), 29 IO58RSB1 (io), 30 IO57RSB1 (io), 31 IO56RSB1 (io), 32 IO55RSB1 (io), 33 IO54RSB1 (io), 34 IO53RSB1 (io), 35 IO52RSB1 (io), 36 IO51RSB1 (io), 40 IO49RSB1 (io), 41 IO47RSB1 (io), 42 IO46RSB1 (io), 43 IO45RSB1 (io), 44 IO44RSB1 (io), 45 IO43RSB1 (io), 46 IO42RSB1 (io)
part C pins: 47 TCK (in), 48 TDI (in), 49 TMS (in), 54 TDO (out), 55 ~{TRST} (in)
part D pins: 17 VCC (power), 18 VCCIB1 (power), 37 VCC (power), 39 VCCIB1 (power), 52 VPUMP (power), 56 VJTAG (power), 66 VCCIB0 (power), 68 VCC (power), 87 VCCIB0 (power), 89 VCC (power)
part E pins: 1 GND (power), 9 GND (power), 38 GND (power), 51 GND (power), 67 GND (power), 88 GND (power)
part F pins: 50 NC, 53 NC
part A text: BANK 0
part B text: BANK 1

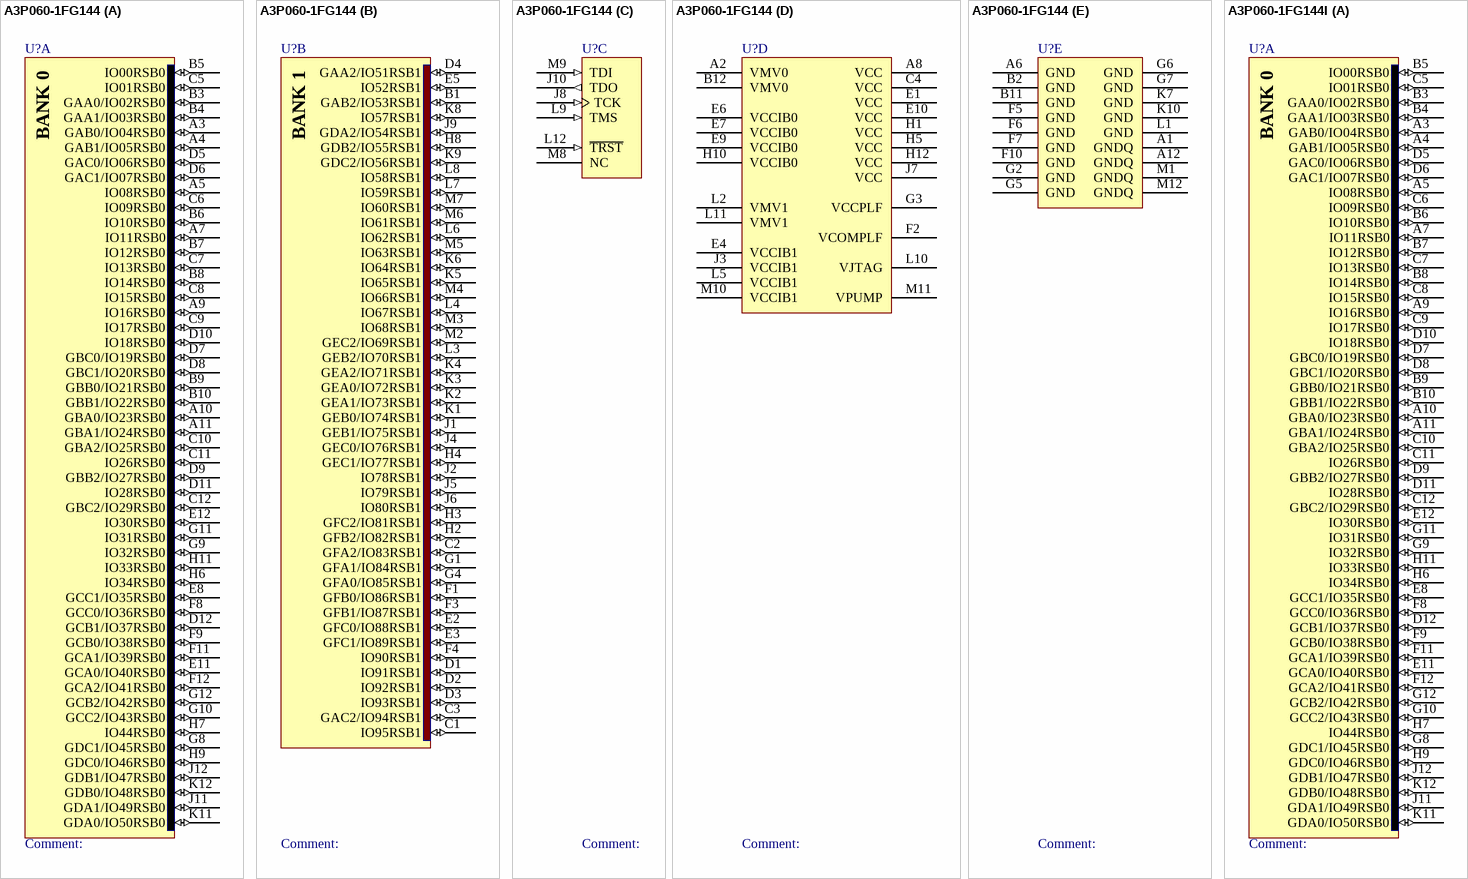
[diagram p13: symbols A3P060-1FG144 to A3P060-1FG144I]

## A3P060-1FG144
designator U?
ProASIC3 Flash Family FPGA, 96 User IOs, 60K System Gates, 18 Kbits RAM, 1 Kbit Flash ROM, 1 PLL, 144-Ball FBGA, Commercial Grade; Published: 4-Mar-2005; LatestRevisionDate: 13-Apr-2006; LatestRevisionNote: IPC-7351 Footprint Added. Pinout changed to match DS ver 0.6.; DatasheetVersion: v1.1, Feb-2009; PackageVersion: v11.0, Feb-2009; PackageReference: FG144; Publisher: Altium Limited; PackageDescription: 144-Ball Fine Pitch Plastic Ball Grid Array (FG144); Code_JEDEC: MO-192-DAD-1; ComponentLink1Description: Manufacturer Link; ComponentLink1URL: http://www.actel.com/products/pa3/; ComponentLink2Description: Datasheet; ComponentLink2URL: http://www.actel.com/documents/PA3_DS.pdf; ComponentLink3Description: Packaging Specification; ComponentLink3URL: http://www.actel.com/documents/PckgMechDrwngs.pdf
footprint FG144 (BGA, 144-Leads, Body 13x13mm, Pitch 1mm)
3D model A3P060-FG144 (144-Ball Fine Pitch Plastic Ball Grid Array (FG144))
signal-integrity model A3P060_FG144 (ProASIC3)
part A pins: A3 GAB0/IO04RSB0 (io), A4 GAB1/IO05RSB0 (io), A5 IO08RSB0 (io), A7 IO11RSB0 (io), A9 IO16RSB0 (io), A10 GBA0/IO23RSB0 (io), A11 GBA1/IO24RSB0 (io), B3 GAA0/IO02RSB0 (io), B4 GAA1/IO03RSB0 (io), B5 IO00RSB0 (io), B6 IO10RSB0 (io), B7 IO12RSB0 (io), B8 IO14RSB0 (io), B9 GBB0/IO21RSB0 (io), B10 GBB1/IO22RSB0 (io), C5 IO01RSB0 (io), C6 IO09RSB0 (io), C7 IO13RSB0 (io), C8 IO15RSB0 (io), C9 IO17RSB0 (io), C10 GBA2/IO25RSB0 (io), C11 IO26RSB0 (io), C12 GBC2/IO29RSB0 (io), D5 GAC0/IO06RSB0 (io), D6 GAC1/IO07RSB0 (io), D7 GBC0/IO19RSB0 (io), D8 GBC1/IO20RSB0 (io), D9 GBB2/IO27RSB0 (io), D10 IO18RSB0 (io), D11 IO28RSB0 (io), D12 GCB1/IO37RSB0 (io), E8 GCC1/IO35RSB0 (io), E11 GCA0/IO40RSB0 (io), E12 IO30RSB0 (io), F8 GCC0/IO36RSB0 (io), F9 GCB0/IO38RSB0 (io), F11 GCA1/IO39RSB0 (io), F12 GCA2/IO41RSB0 (io), G8 GDC1/IO45RSB0 (io), G9 IO32RSB0 (io), G10 GCC2/IO43RSB0 (io), G11 IO31RSB0 (io), G12 GCB2/IO42RSB0 (io), H6 IO34RSB0 (io), H7 IO44RSB0 (io), H9 GDC0/IO46RSB0 (io), H11 IO33RSB0 (io), J11 GDA1/IO49RSB0 (io), J12 GDB1/IO47RSB0 (io), K11 GDA0/IO50RSB0 (io), K12 GDB0/IO48RSB0 (io)
part B pins: B1 GAB2/IO53RSB1 (io), C1 IO95RSB1 (io), C2 GFA2/IO83RSB1 (io), C3 GAC2/IO94RSB1 (io), D1 IO91RSB1 (io), D2 IO92RSB1 (io), D3 IO93RSB1 (io), D4 GAA2/IO51RSB1 (io), E2 GFC0/IO88RSB1 (io), E3 GFC1/IO89RSB1 (io), E5 IO52RSB1 (io), F1 GFB0/IO86RSB1 (io), F3 GFB1/IO87RSB1 (io), F4 IO90RSB1 (io), G1 GFA1/IO84RSB1 (io), G4 GFA0/IO85RSB1 (io), H2 GFB2/IO82RSB1 (io), H3 GFC2/IO81RSB1 (io), H4 GEC1/IO77RSB1 (io), H8 GDB2/IO55RSB1 (io), J1 GEB1/IO75RSB1 (io), J2 IO78RSB1 (io), J4 GEC0/IO76RSB1 (io), J5 IO79RSB1 (io), J6 IO80RSB1 (io), J9 GDA2/IO54RSB1 (io), K1 GEB0/IO74RSB1 (io), K2 GEA1/IO73RSB1 (io), K3 GEA0/IO72RSB1 (io), K4 GEA2/IO71RSB1 (io), K5 IO65RSB1 (io), K6 IO64RSB1 (io), K8 IO57RSB1 (io), K9 GDC2/IO56RSB1 (io), L3 GEB2/IO70RSB1 (io), L4 IO67RSB1 (io), L6 IO62RSB1 (io), L7 IO59RSB1 (io), L8 IO58RSB1 (io), M2 GEC2/IO69RSB1 (io), M3 IO68RSB1 (io), M4 IO66RSB1 (io), M5 IO63RSB1 (io), M6 IO61RSB1 (io), M7 IO60RSB1 (io)
part C pins: J8 TCK (in), J10 TDO (out), L9 TMS (in), L12 ~{TRST} (in), M8 NC, M9 TDI (in)
part D pins: A2 VMV0 (power), A8 VCC (power), B12 VMV0 (power), C4 VCC (power), E1 VCC (power), E4 VCCIB1 (power), E6 VCCIB0 (power), E7 VCCIB0 (power), E9 VCCIB0 (power), E10 VCC (power), F2 VCOMPLF (power), G3 VCCPLF (power), H1 VCC (power), H5 VCC (power), H10 VCCIB0 (power), H12 VCC (power), J3 VCCIB1 (power), J7 VCC (power), L2 VMV1 (power), L5 VCCIB1 (power), L10 VJTAG (power), L11 VMV1 (power), M10 VCCIB1 (power), M11 VPUMP (power)
part E pins: A1 GNDQ (power), A6 GND (power), A12 GNDQ (power), B2 GND (power), B11 GND (power), F5 GND (power), F6 GND (power), F7 GND (power), F10 GND (power), G2 GND (power), G5 GND (power), G6 GND (power), G7 GND (power), K7 GND (power), K10 GND (power), L1 GND (power), M1 GNDQ (power), M12 GNDQ (power)
part A text: BANK 0
part B text: BANK 1

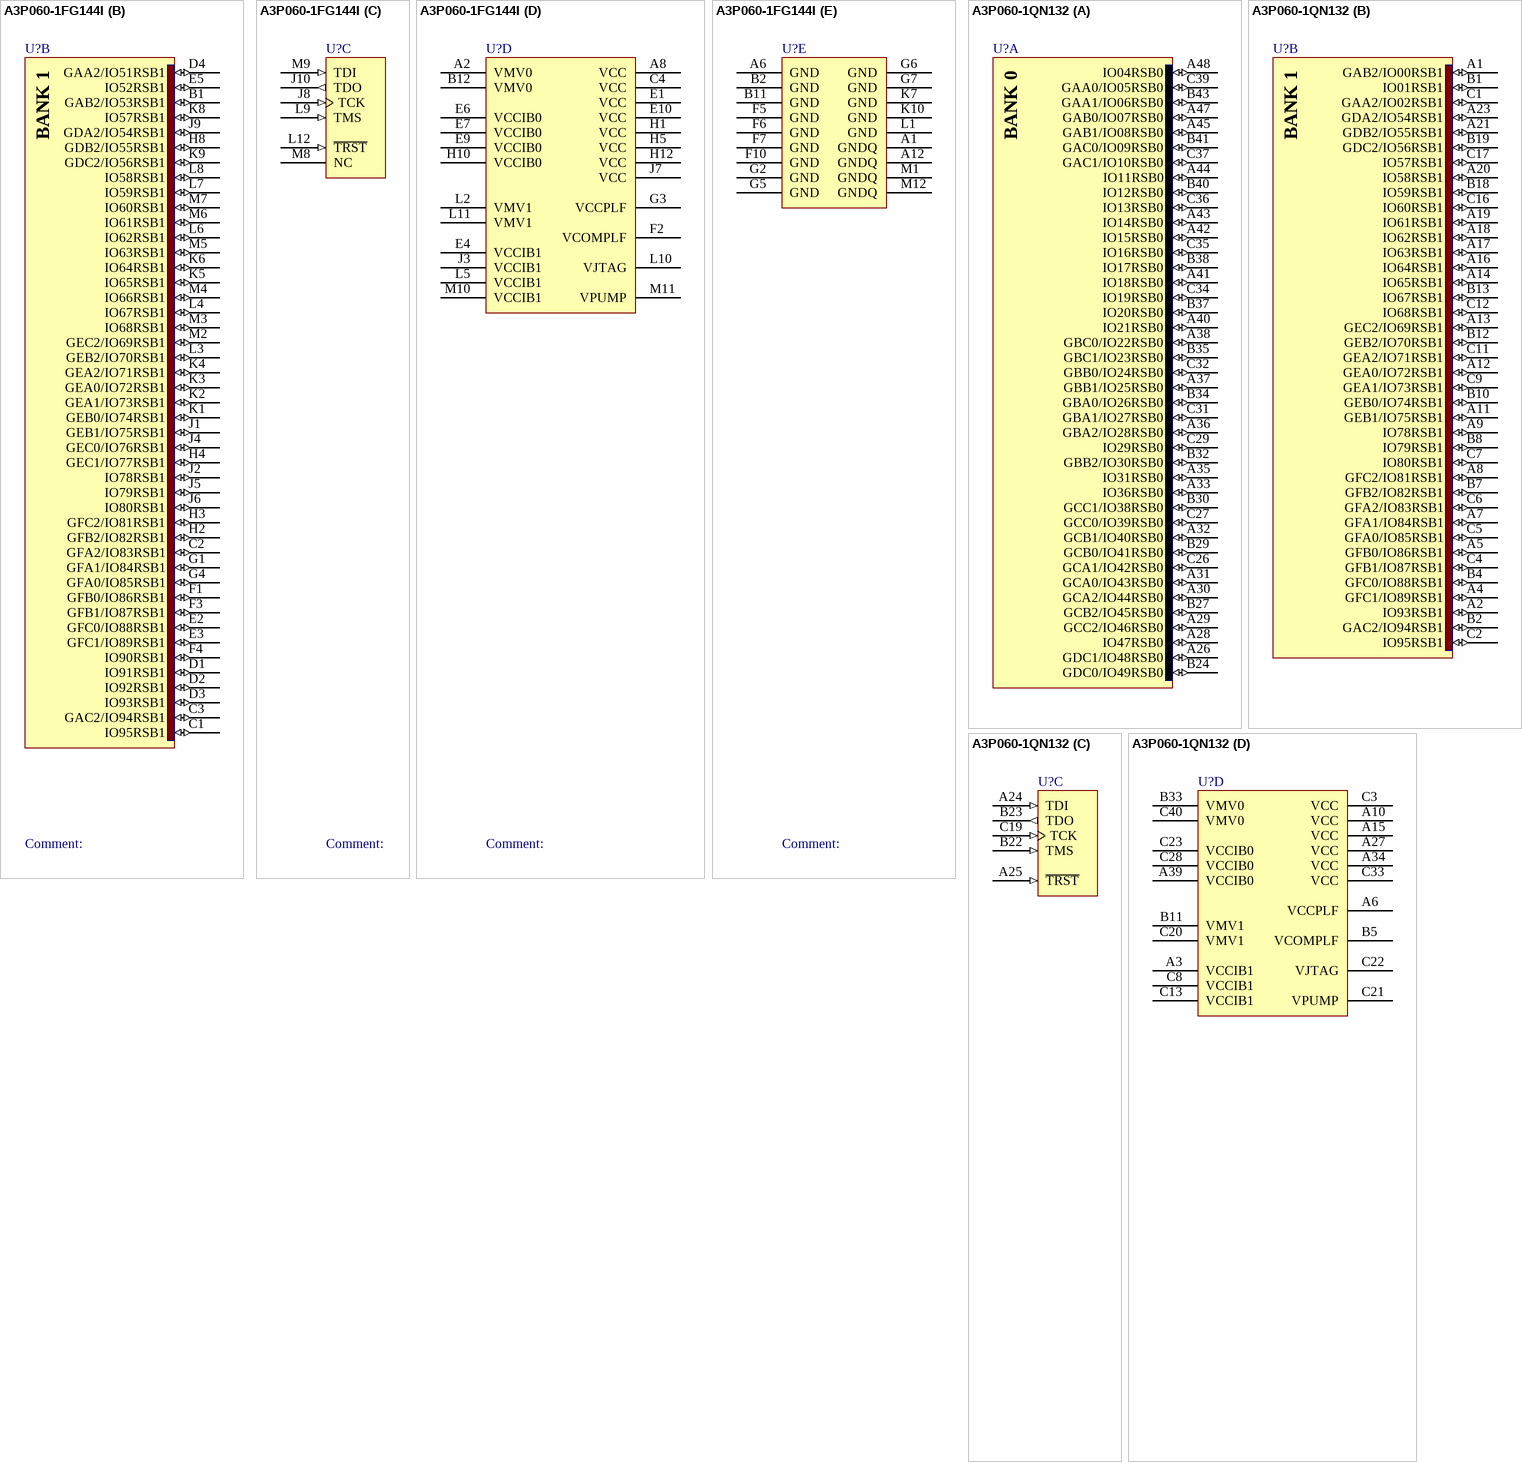
[diagram p14: symbols A3P060-1FG144I to A3P060-1QN132]

## A3P060-1FG144I
designator U?
ProASIC3 Flash Family FPGA, 96 User IOs, 60K System Gates, 18 Kbits RAM, 1 Kbit Flash ROM, 1 PLL, 144-Ball FBGA, Industrial Grade; Published: 4-Mar-2005; LatestRevisionDate: 13-Apr-2006; LatestRevisionNote: IPC-7351 Footprint Added. Pinout changed to match DS ver 0.6.; DatasheetVersion: v1.1, Feb-2009; PackageVersion: v11.0, Feb-2009; PackageReference: FG144; Publisher: Altium Limited; PackageDescription: 144-Ball Fine Pitch Plastic Ball Grid Array (FG144); Code_JEDEC: MO-192-DAD-1; ComponentLink1Description: Manufacturer Link; ComponentLink1URL: http://www.actel.com/products/pa3/; ComponentLink2Description: Datasheet; ComponentLink2URL: http://www.actel.com/documents/PA3_DS.pdf; ComponentLink3Description: Packaging Specification; ComponentLink3URL: http://www.actel.com/documents/PckgMechDrwngs.pdf
footprint FG144 (BGA, 144-Leads, Body 13x13mm, Pitch 1mm)
3D model A3P060-FG144 (144-Ball Fine Pitch Plastic Ball Grid Array (FG144))
signal-integrity model A3P060_FG144 (ProASIC3)
part A pins: A3 GAB0/IO04RSB0 (io), A4 GAB1/IO05RSB0 (io), A5 IO08RSB0 (io), A7 IO11RSB0 (io), A9 IO16RSB0 (io), A10 GBA0/IO23RSB0 (io), A11 GBA1/IO24RSB0 (io), B3 GAA0/IO02RSB0 (io), B4 GAA1/IO03RSB0 (io), B5 IO00RSB0 (io), B6 IO10RSB0 (io), B7 IO12RSB0 (io), B8 IO14RSB0 (io), B9 GBB0/IO21RSB0 (io), B10 GBB1/IO22RSB0 (io), C5 IO01RSB0 (io), C6 IO09RSB0 (io), C7 IO13RSB0 (io), C8 IO15RSB0 (io), C9 IO17RSB0 (io), C10 GBA2/IO25RSB0 (io), C11 IO26RSB0 (io), C12 GBC2/IO29RSB0 (io), D5 GAC0/IO06RSB0 (io), D6 GAC1/IO07RSB0 (io), D7 GBC0/IO19RSB0 (io), D8 GBC1/IO20RSB0 (io), D9 GBB2/IO27RSB0 (io), D10 IO18RSB0 (io), D11 IO28RSB0 (io), D12 GCB1/IO37RSB0 (io), E8 GCC1/IO35RSB0 (io), E11 GCA0/IO40RSB0 (io), E12 IO30RSB0 (io), F8 GCC0/IO36RSB0 (io), F9 GCB0/IO38RSB0 (io), F11 GCA1/IO39RSB0 (io), F12 GCA2/IO41RSB0 (io), G8 GDC1/IO45RSB0 (io), G9 IO32RSB0 (io), G10 GCC2/IO43RSB0 (io), G11 IO31RSB0 (io), G12 GCB2/IO42RSB0 (io), H6 IO34RSB0 (io), H7 IO44RSB0 (io), H9 GDC0/IO46RSB0 (io), H11 IO33RSB0 (io), J11 GDA1/IO49RSB0 (io), J12 GDB1/IO47RSB0 (io), K11 GDA0/IO50RSB0 (io), K12 GDB0/IO48RSB0 (io)
part B pins: B1 GAB2/IO53RSB1 (io), C1 IO95RSB1 (io), C2 GFA2/IO83RSB1 (io), C3 GAC2/IO94RSB1 (io), D1 IO91RSB1 (io), D2 IO92RSB1 (io), D3 IO93RSB1 (io), D4 GAA2/IO51RSB1 (io), E2 GFC0/IO88RSB1 (io), E3 GFC1/IO89RSB1 (io), E5 IO52RSB1 (io), F1 GFB0/IO86RSB1 (io), F3 GFB1/IO87RSB1 (io), F4 IO90RSB1 (io), G1 GFA1/IO84RSB1 (io), G4 GFA0/IO85RSB1 (io), H2 GFB2/IO82RSB1 (io), H3 GFC2/IO81RSB1 (io), H4 GEC1/IO77RSB1 (io), H8 GDB2/IO55RSB1 (io), J1 GEB1/IO75RSB1 (io), J2 IO78RSB1 (io), J4 GEC0/IO76RSB1 (io), J5 IO79RSB1 (io), J6 IO80RSB1 (io), J9 GDA2/IO54RSB1 (io), K1 GEB0/IO74RSB1 (io), K2 GEA1/IO73RSB1 (io), K3 GEA0/IO72RSB1 (io), K4 GEA2/IO71RSB1 (io), K5 IO65RSB1 (io), K6 IO64RSB1 (io), K8 IO57RSB1 (io), K9 GDC2/IO56RSB1 (io), L3 GEB2/IO70RSB1 (io), L4 IO67RSB1 (io), L6 IO62RSB1 (io), L7 IO59RSB1 (io), L8 IO58RSB1 (io), M2 GEC2/IO69RSB1 (io), M3 IO68RSB1 (io), M4 IO66RSB1 (io), M5 IO63RSB1 (io), M6 IO61RSB1 (io), M7 IO60RSB1 (io)
part C pins: J8 TCK (in), J10 TDO (out), L9 TMS (in), L12 ~{TRST} (in), M8 NC, M9 TDI (in)
part D pins: A2 VMV0 (power), A8 VCC (power), B12 VMV0 (power), C4 VCC (power), E1 VCC (power), E4 VCCIB1 (power), E6 VCCIB0 (power), E7 VCCIB0 (power), E9 VCCIB0 (power), E10 VCC (power), F2 VCOMPLF (power), G3 VCCPLF (power), H1 VCC (power), H5 VCC (power), H10 VCCIB0 (power), H12 VCC (power), J3 VCCIB1 (power), J7 VCC (power), L2 VMV1 (power), L5 VCCIB1 (power), L10 VJTAG (power), L11 VMV1 (power), M10 VCCIB1 (power), M11 VPUMP (power)
part E pins: A1 GNDQ (power), A6 GND (power), A12 GNDQ (power), B2 GND (power), B11 GND (power), F5 GND (power), F6 GND (power), F7 GND (power), F10 GND (power), G2 GND (power), G5 GND (power), G6 GND (power), G7 GND (power), K7 GND (power), K10 GND (power), L1 GND (power), M1 GNDQ (power), M12 GNDQ (power)
part A text: BANK 0
part B text: BANK 1

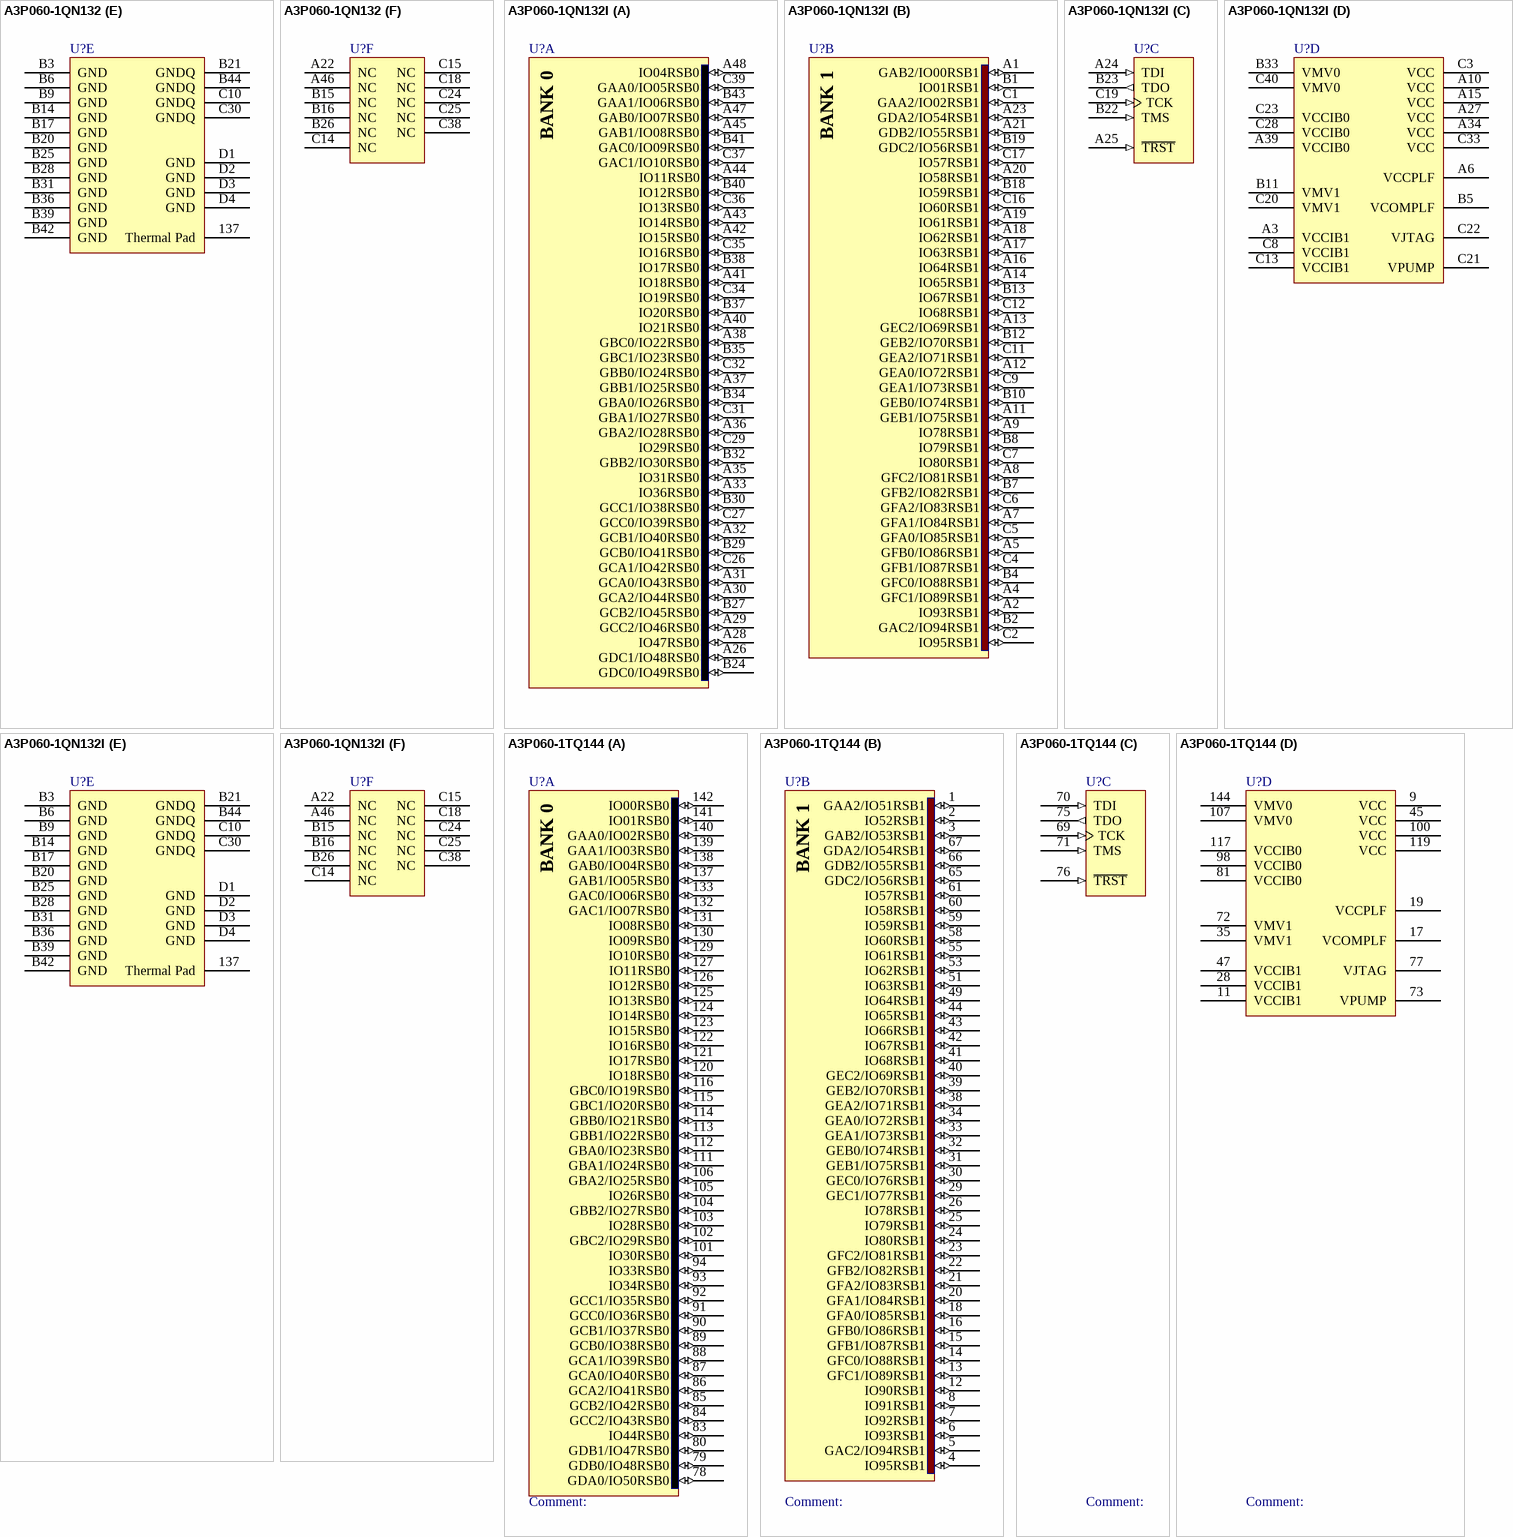
[diagram p15: symbols A3P060-1QN132 to A3P060-1TQ144]

## A3P060-1QN132
designator U?
ProASIC3 Flash Family FPGA, 80 User IOs, 60K System Gates, 18 Kbits RAM, 1 Kbit ProASIC3 Flash ROM, 1 PLL, 132-Pin QFN, Commercial Grade; Published: 30-Mar-2007; DatasheetVersion: v1.1, Feb-2009; PackageVersion: v11.0, Feb-2009; PackageReference: QN132; Publisher: Altium Limited; PackageDescription: 132-Pin Quad Flat Pack No-Leads (QN132); ComponentLink1Description: Manufacturer Link; ComponentLink1URL: http://www.actel.com/products/pa3/; ComponentLink2Description: Datasheet; ComponentLink2URL: http://www.actel.com/documents/PA3_DS.pdf; ComponentLink3Description: Packaging Specification; ComponentLink3URL: http://www.actel.com/documents/PckgMechDrwngs.pdf
footprint QN132 (QFN, 132-Leads, Body 8x8mm, Pitch 0.5mm)
3D model A3P060-QN132 (132-Pin Quad Flat Pack No-Leads (QN132))
signal-integrity model A3P060_QN132 (ProASIC3)
part A pins: A26 GDC1/IO48RSB0 (io), A28 IO47RSB0 (io), A29 GCC2/IO46RSB0 (io), A30 GCA2/IO44RSB0 (io), A31 GCA0/IO43RSB0 (io), A32 GCB1/IO40RSB0 (io), A33 IO36RSB0 (io), A35 IO31RSB0 (io), A36 GBA2/IO28RSB0 (io), A37 GBB1/IO25RSB0 (io), A38 GBC0/IO22RSB0 (io), A40 IO21RSB0 (io), A41 IO18RSB0 (io), A42 IO15RSB0 (io), A43 IO14RSB0 (io), A44 IO11RSB0 (io), A45 GAB1/IO08RSB0 (io), A47 GAB0/IO07RSB0 (io), A48 IO04RSB0 (io), B24 GDC0/IO49RSB0 (io), B27 GCB2/IO45RSB0 (io), B29 GCB0/IO41RSB0 (io), B30 GCC1/IO38RSB0 (io), B32 GBB2/IO30RSB0 (io), B34 GBA0/IO26RSB0 (io), B35 GBC1/IO23RSB0 (io), B37 IO20RSB0 (io), B38 IO17RSB0 (io), B40 IO12RSB0 (io), B41 GAC0/IO09RSB0 (io), B43 GAA1/IO06RSB0 (io), C26 GCA1/IO42RSB0 (io), C27 GCC0/IO39RSB0 (io), C29 IO29RSB0 (io), C31 GBA1/IO27RSB0 (io), C32 GBB0/IO24RSB0 (io), C34 IO19RSB0 (io), C35 IO16RSB0 (io), C36 IO13RSB0 (io), C37 GAC1/IO10RSB0 (io), C39 GAA0/IO05RSB0 (io)
part B pins: A1 GAB2/IO00RSB1 (io), A2 IO93RSB1 (io), A4 GFC1/IO89RSB1 (io), A5 GFB0/IO86RSB1 (io), A7 GFA1/IO84RSB1 (io), A8 GFC2/IO81RSB1 (io), A9 IO78RSB1 (io), A11 GEB1/IO75RSB1 (io), A12 GEA0/IO72RSB1 (io), A13 GEC2/IO69RSB1 (io), A14 IO65RSB1 (io), A16 IO64RSB1 (io), A17 IO63RSB1 (io), A18 IO62RSB1 (io), A19 IO61RSB1 (io), A20 IO58RSB1 (io), A21 GDB2/IO55RSB1 (io), A23 GDA2/IO54RSB1 (io), B1 IO01RSB1 (io), B2 GAC2/IO94RSB1 (io), B4 GFC0/IO88RSB1 (io), B7 GFB2/IO82RSB1 (io), B8 IO79RSB1 (io), B10 GEB0/IO74RSB1 (io), B12 GEB2/IO70RSB1 (io), B13 IO67RSB1 (io), B18 IO59RSB1 (io), B19 GDC2/IO56RSB1 (io), C1 GAA2/IO02RSB1 (io), C2 IO95RSB1 (io), C4 GFB1/IO87RSB1 (io), C5 GFA0/IO85RSB1 (io), C6 GFA2/IO83RSB1 (io), C7 IO80RSB1 (io), C9 GEA1/IO73RSB1 (io), C11 GEA2/IO71RSB1 (io), C12 IO68RSB1 (io), C16 IO60RSB1 (io), C17 IO57RSB1 (io)
part C pins: A24 TDI (in), A25 ~{TRST} (in), B22 TMS (in), B23 TDO (out), C19 TCK (in)
part D pins: A3 VCCIB1 (power), A6 VCCPLF (power), A10 VCC (power), A15 VCC (power), A27 VCC (power), A34 VCC (power), A39 VCCIB0 (power), B5 VCOMPLF (power), B11 VMV1 (power), B33 VMV0 (power), C3 VCC (power), C8 VCCIB1 (power), C13 VCCIB1 (power), C20 VMV1 (power), C21 VPUMP (power), C22 VJTAG (power), C23 VCCIB0 (power), C28 VCCIB0 (power), C33 VCC (power), C40 VMV0 (power)
part E pins: 137 Thermal Pad (power), B3 GND (power), B6 GND (power), B9 GND (power), B14 GND (power), B17 GND (power), B20 GND (power), B21 GNDQ (power), B25 GND (power), B28 GND (power), B31 GND (power), B36 GND (power), B39 GND (power), B42 GND (power), B44 GNDQ (power), C10 GNDQ (power), C30 GNDQ (power), D1 GND (power), D2 GND (power), D3 GND (power), D4 GND (power)
part F pins: A22 NC, A46 NC, B15 NC, B16 NC, B26 NC, C14 NC, C15 NC, C18 NC, C24 NC, C25 NC, C38 NC
part A text: BANK 0
part B text: BANK 1

## A3P060-1QN132I
designator U?
ProASIC3 Flash Family FPGA, 80 User IOs, 60K System Gates, 18 Kbits RAM, 1 Kbit ProASIC3 Flash ROM, 1 PLL, 132-Pin QFN, Industrial Grade; Published: 30-Mar-2007; DatasheetVersion: v1.1, Feb-2009; PackageVersion: v11.0, Feb-2009; PackageReference: QN132; Publisher: Altium Limited; PackageDescription: 132-Pin Quad Flat Pack No-Leads (QN132); ComponentLink1Description: Manufacturer Link; ComponentLink1URL: http://www.actel.com/products/pa3/; ComponentLink2Description: Datasheet; ComponentLink2URL: http://www.actel.com/documents/PA3_DS.pdf; ComponentLink3Description: Packaging Specification; ComponentLink3URL: http://www.actel.com/documents/PckgMechDrwngs.pdf
footprint QN132 (QFN, 132-Leads, Body 8x8mm, Pitch 0.5mm)
3D model A3P060-QN132 (132-Pin Quad Flat Pack No-Leads (QN132))
signal-integrity model A3P060_QN132 (ProASIC3)
part A pins: A26 GDC1/IO48RSB0 (io), A28 IO47RSB0 (io), A29 GCC2/IO46RSB0 (io), A30 GCA2/IO44RSB0 (io), A31 GCA0/IO43RSB0 (io), A32 GCB1/IO40RSB0 (io), A33 IO36RSB0 (io), A35 IO31RSB0 (io), A36 GBA2/IO28RSB0 (io), A37 GBB1/IO25RSB0 (io), A38 GBC0/IO22RSB0 (io), A40 IO21RSB0 (io), A41 IO18RSB0 (io), A42 IO15RSB0 (io), A43 IO14RSB0 (io), A44 IO11RSB0 (io), A45 GAB1/IO08RSB0 (io), A47 GAB0/IO07RSB0 (io), A48 IO04RSB0 (io), B24 GDC0/IO49RSB0 (io), B27 GCB2/IO45RSB0 (io), B29 GCB0/IO41RSB0 (io), B30 GCC1/IO38RSB0 (io), B32 GBB2/IO30RSB0 (io), B34 GBA0/IO26RSB0 (io), B35 GBC1/IO23RSB0 (io), B37 IO20RSB0 (io), B38 IO17RSB0 (io), B40 IO12RSB0 (io), B41 GAC0/IO09RSB0 (io), B43 GAA1/IO06RSB0 (io), C26 GCA1/IO42RSB0 (io), C27 GCC0/IO39RSB0 (io), C29 IO29RSB0 (io), C31 GBA1/IO27RSB0 (io), C32 GBB0/IO24RSB0 (io), C34 IO19RSB0 (io), C35 IO16RSB0 (io), C36 IO13RSB0 (io), C37 GAC1/IO10RSB0 (io), C39 GAA0/IO05RSB0 (io)
part B pins: A1 GAB2/IO00RSB1 (io), A2 IO93RSB1 (io), A4 GFC1/IO89RSB1 (io), A5 GFB0/IO86RSB1 (io), A7 GFA1/IO84RSB1 (io), A8 GFC2/IO81RSB1 (io), A9 IO78RSB1 (io), A11 GEB1/IO75RSB1 (io), A12 GEA0/IO72RSB1 (io), A13 GEC2/IO69RSB1 (io), A14 IO65RSB1 (io), A16 IO64RSB1 (io), A17 IO63RSB1 (io), A18 IO62RSB1 (io), A19 IO61RSB1 (io), A20 IO58RSB1 (io), A21 GDB2/IO55RSB1 (io), A23 GDA2/IO54RSB1 (io), B1 IO01RSB1 (io), B2 GAC2/IO94RSB1 (io), B4 GFC0/IO88RSB1 (io), B7 GFB2/IO82RSB1 (io), B8 IO79RSB1 (io), B10 GEB0/IO74RSB1 (io), B12 GEB2/IO70RSB1 (io), B13 IO67RSB1 (io), B18 IO59RSB1 (io), B19 GDC2/IO56RSB1 (io), C1 GAA2/IO02RSB1 (io), C2 IO95RSB1 (io), C4 GFB1/IO87RSB1 (io), C5 GFA0/IO85RSB1 (io), C6 GFA2/IO83RSB1 (io), C7 IO80RSB1 (io), C9 GEA1/IO73RSB1 (io), C11 GEA2/IO71RSB1 (io), C12 IO68RSB1 (io), C16 IO60RSB1 (io), C17 IO57RSB1 (io)
part C pins: A24 TDI (in), A25 ~{TRST} (in), B22 TMS (in), B23 TDO (out), C19 TCK (in)
part D pins: A3 VCCIB1 (power), A6 VCCPLF (power), A10 VCC (power), A15 VCC (power), A27 VCC (power), A34 VCC (power), A39 VCCIB0 (power), B5 VCOMPLF (power), B11 VMV1 (power), B33 VMV0 (power), C3 VCC (power), C8 VCCIB1 (power), C13 VCCIB1 (power), C20 VMV1 (power), C21 VPUMP (power), C22 VJTAG (power), C23 VCCIB0 (power), C28 VCCIB0 (power), C33 VCC (power), C40 VMV0 (power)
part E pins: 137 Thermal Pad (power), B3 GND (power), B6 GND (power), B9 GND (power), B14 GND (power), B17 GND (power), B20 GND (power), B21 GNDQ (power), B25 GND (power), B28 GND (power), B31 GND (power), B36 GND (power), B39 GND (power), B42 GND (power), B44 GNDQ (power), C10 GNDQ (power), C30 GNDQ (power), D1 GND (power), D2 GND (power), D3 GND (power), D4 GND (power)
part F pins: A22 NC, A46 NC, B15 NC, B16 NC, B26 NC, C14 NC, C15 NC, C18 NC, C24 NC, C25 NC, C38 NC
part A text: BANK 0
part B text: BANK 1

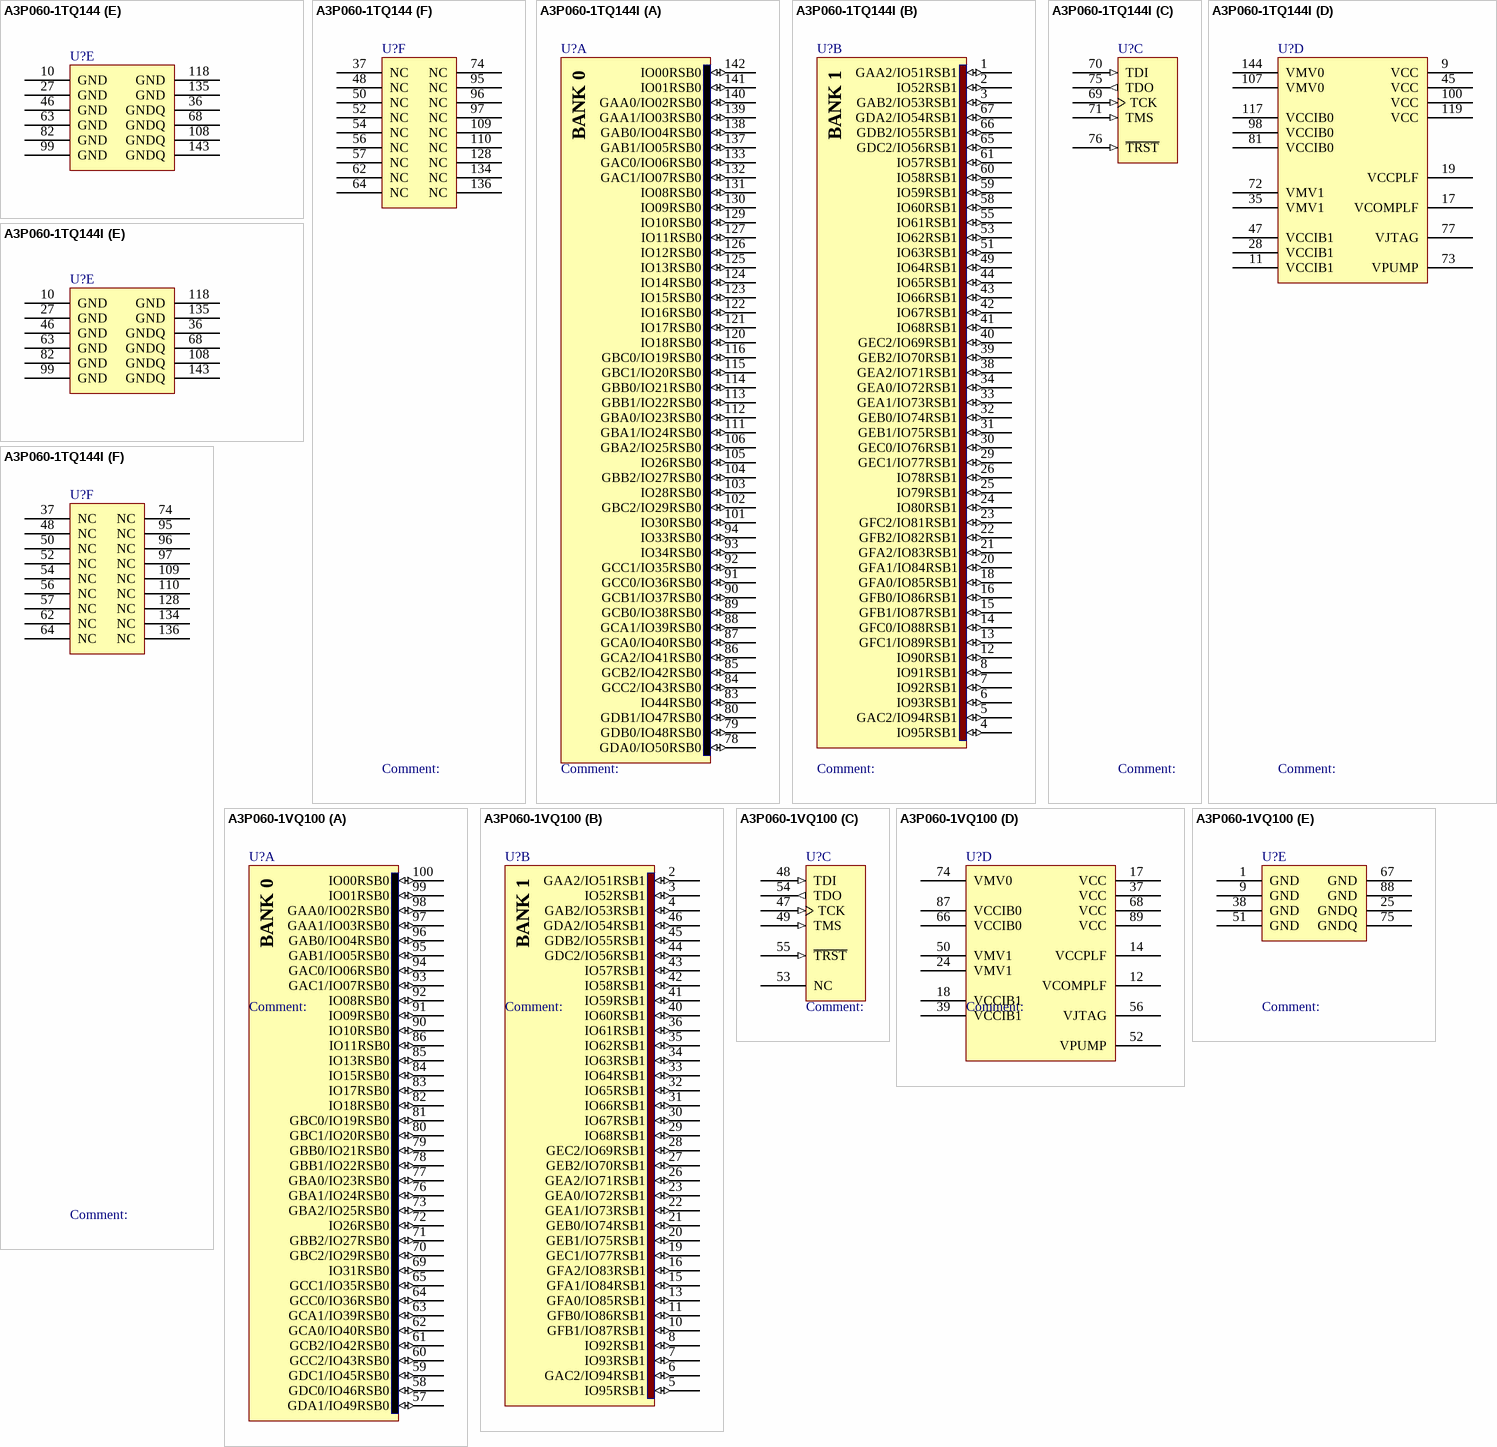
[diagram p16: symbols A3P060-1TQ144 to A3P060-1VQ100]

## A3P060-1TQ144
designator U?
ProASIC3 Flash Family FPGA, 91 User IOs, 60K System Gates, 18 Kbits RAM, 1 Kbit Flash ROM, 1 PLL, 144-Pin TQFP, Commercial Grade; Published: 4-Mar-2005; LatestRevisionDate: 13-Apr-2006; LatestRevisionNote: IPC-7351 Footprint Added. Pinout changed to match DS ver 0.6.; DatasheetVersion: v1.1, Feb-2009; PackageVersion: v11.0, Feb-2009; PackageReference: TQ144; Publisher: Altium Limited; PackageDescription: 144-Pin Plastic Quad Flat Pack (TQ144); Code_JEDEC: MS-026-BFB; ComponentLink1Description: Manufacturer Link; ComponentLink1URL: http://www.actel.com/products/pa3/; ComponentLink2Description: Datasheet; ComponentLink2URL: http://www.actel.com/documents/PA3_DS.pdf; ComponentLink3Description: Packaging Specification; ComponentLink3URL: http://www.actel.com/documents/PckgMechDrwngs.pdf
footprint TQ144_N (Thin QFP, 144-Leads, Body 20x20mm, Pitch 0.5mm, IPC Medium Density)
footprint TQ144_L (Thin QFP, 144-Leads, Body 20x20mm, Pitch 0.5mm, IPC High Density)
footprint TQ144_M (Thin QFP, 144-Leads, Body 20x20mm, Pitch 0.5mm, IPC Low Density)
3D model A3P060-TQ144 (144-Pin Plastic Quad Flat Pack (TQ144))
signal-integrity model A3P060_TQ144 (ProASIC3)
part A pins: 78 GDA0/IO50RSB0 (io), 79 GDB0/IO48RSB0 (io), 80 GDB1/IO47RSB0 (io), 83 IO44RSB0 (io), 84 GCC2/IO43RSB0 (io), 85 GCB2/IO42RSB0 (io), 86 GCA2/IO41RSB0 (io), 87 GCA0/IO40RSB0 (io), 88 GCA1/IO39RSB0 (io), 89 GCB0/IO38RSB0 (io), 90 GCB1/IO37RSB0 (io), 91 GCC0/IO36RSB0 (io), 92 GCC1/IO35RSB0 (io), 93 IO34RSB0 (io), 94 IO33RSB0 (io), 101 IO30RSB0 (io), 102 GBC2/IO29RSB0 (io), 103 IO28RSB0 (io), 104 GBB2/IO27RSB0 (io), 105 IO26RSB0 (io), 106 GBA2/IO25RSB0 (io), 111 GBA1/IO24RSB0 (io), 112 GBA0/IO23RSB0 (io), 113 GBB1/IO22RSB0 (io), 114 GBB0/IO21RSB0 (io), 115 GBC1/IO20RSB0 (io), 116 GBC0/IO19RSB0 (io), 120 IO18RSB0 (io), 121 IO17RSB0 (io), 122 IO16RSB0 (io), 123 IO15RSB0 (io), 124 IO14RSB0 (io), 125 IO13RSB0 (io), 126 IO12RSB0 (io), 127 IO11RSB0 (io), 129 IO10RSB0 (io), 130 IO09RSB0 (io), 131 IO08RSB0 (io), 132 GAC1/IO07RSB0 (io), 133 GAC0/IO06RSB0 (io), 137 GAB1/IO05RSB0 (io), 138 GAB0/IO04RSB0 (io), 139 GAA1/IO03RSB0 (io), 140 GAA0/IO02RSB0 (io), 141 IO01RSB0 (io), 142 IO00RSB0 (io)
part B pins: 1 GAA2/IO51RSB1 (io), 2 IO52RSB1 (io), 3 GAB2/IO53RSB1 (io), 4 IO95RSB1 (io), 5 GAC2/IO94RSB1 (io), 6 IO93RSB1 (io), 7 IO92RSB1 (io), 8 IO91RSB1 (io), 12 IO90RSB1 (io), 13 GFC1/IO89RSB1 (io), 14 GFC0/IO88RSB1 (io), 15 GFB1/IO87RSB1 (io), 16 GFB0/IO86RSB1 (io), 18 GFA0/IO85RSB1 (io), 20 GFA1/IO84RSB1 (io), 21 GFA2/IO83RSB1 (io), 22 GFB2/IO82RSB1 (io), 23 GFC2/IO81RSB1 (io), 24 IO80RSB1 (io), 25 IO79RSB1 (io), 26 IO78RSB1 (io), 29 GEC1/IO77RSB1 (io), 30 GEC0/IO76RSB1 (io), 31 GEB1/IO75RSB1 (io), 32 GEB0/IO74RSB1 (io), 33 GEA1/IO73RSB1 (io), 34 GEA0/IO72RSB1 (io), 38 GEA2/IO71RSB1 (io), 39 GEB2/IO70RSB1 (io), 40 GEC2/IO69RSB1 (io), 41 IO68RSB1 (io), 42 IO67RSB1 (io), 43 IO66RSB1 (io), 44 IO65RSB1 (io), 49 IO64RSB1 (io), 51 IO63RSB1 (io), 53 IO62RSB1 (io), 55 IO61RSB1 (io), 58 IO60RSB1 (io), 59 IO59RSB1 (io), 60 IO58RSB1 (io), 61 IO57RSB1 (io), 65 GDC2/IO56RSB1 (io), 66 GDB2/IO55RSB1 (io), 67 GDA2/IO54RSB1 (io)
part C pins: 69 TCK (in), 70 TDI (in), 71 TMS (in), 75 TDO (out), 76 ~{TRST} (in)
part D pins: 9 VCC (power), 11 VCCIB1 (power), 17 VCOMPLF (power), 19 VCCPLF (power), 28 VCCIB1 (power), 35 VMV1 (power), 45 VCC (power), 47 VCCIB1 (power), 72 VMV1 (power), 73 VPUMP (power), 77 VJTAG (power), 81 VCCIB0 (power), 98 VCCIB0 (power), 100 VCC (power), 107 VMV0 (power), 117 VCCIB0 (power), 119 VCC (power), 144 VMV0 (power)
part E pins: 10 GND (power), 27 GND (power), 36 GNDQ (power), 46 GND (power), 63 GND (power), 68 GNDQ (power), 82 GND (power), 99 GND (power), 108 GNDQ (power), 118 GND (power), 135 GND (power), 143 GNDQ (power)
part F pins: 37 NC, 48 NC, 50 NC, 52 NC, 54 NC, 56 NC, 57 NC, 62 NC, 64 NC, 74 NC, 95 NC, 96 NC, 97 NC, 109 NC, 110 NC, 128 NC, 134 NC, 136 NC
part A text: BANK 0
part B text: BANK 1